# Altium integrated library Fszhang.IntLib: 203 symbols (part 2 of 2)
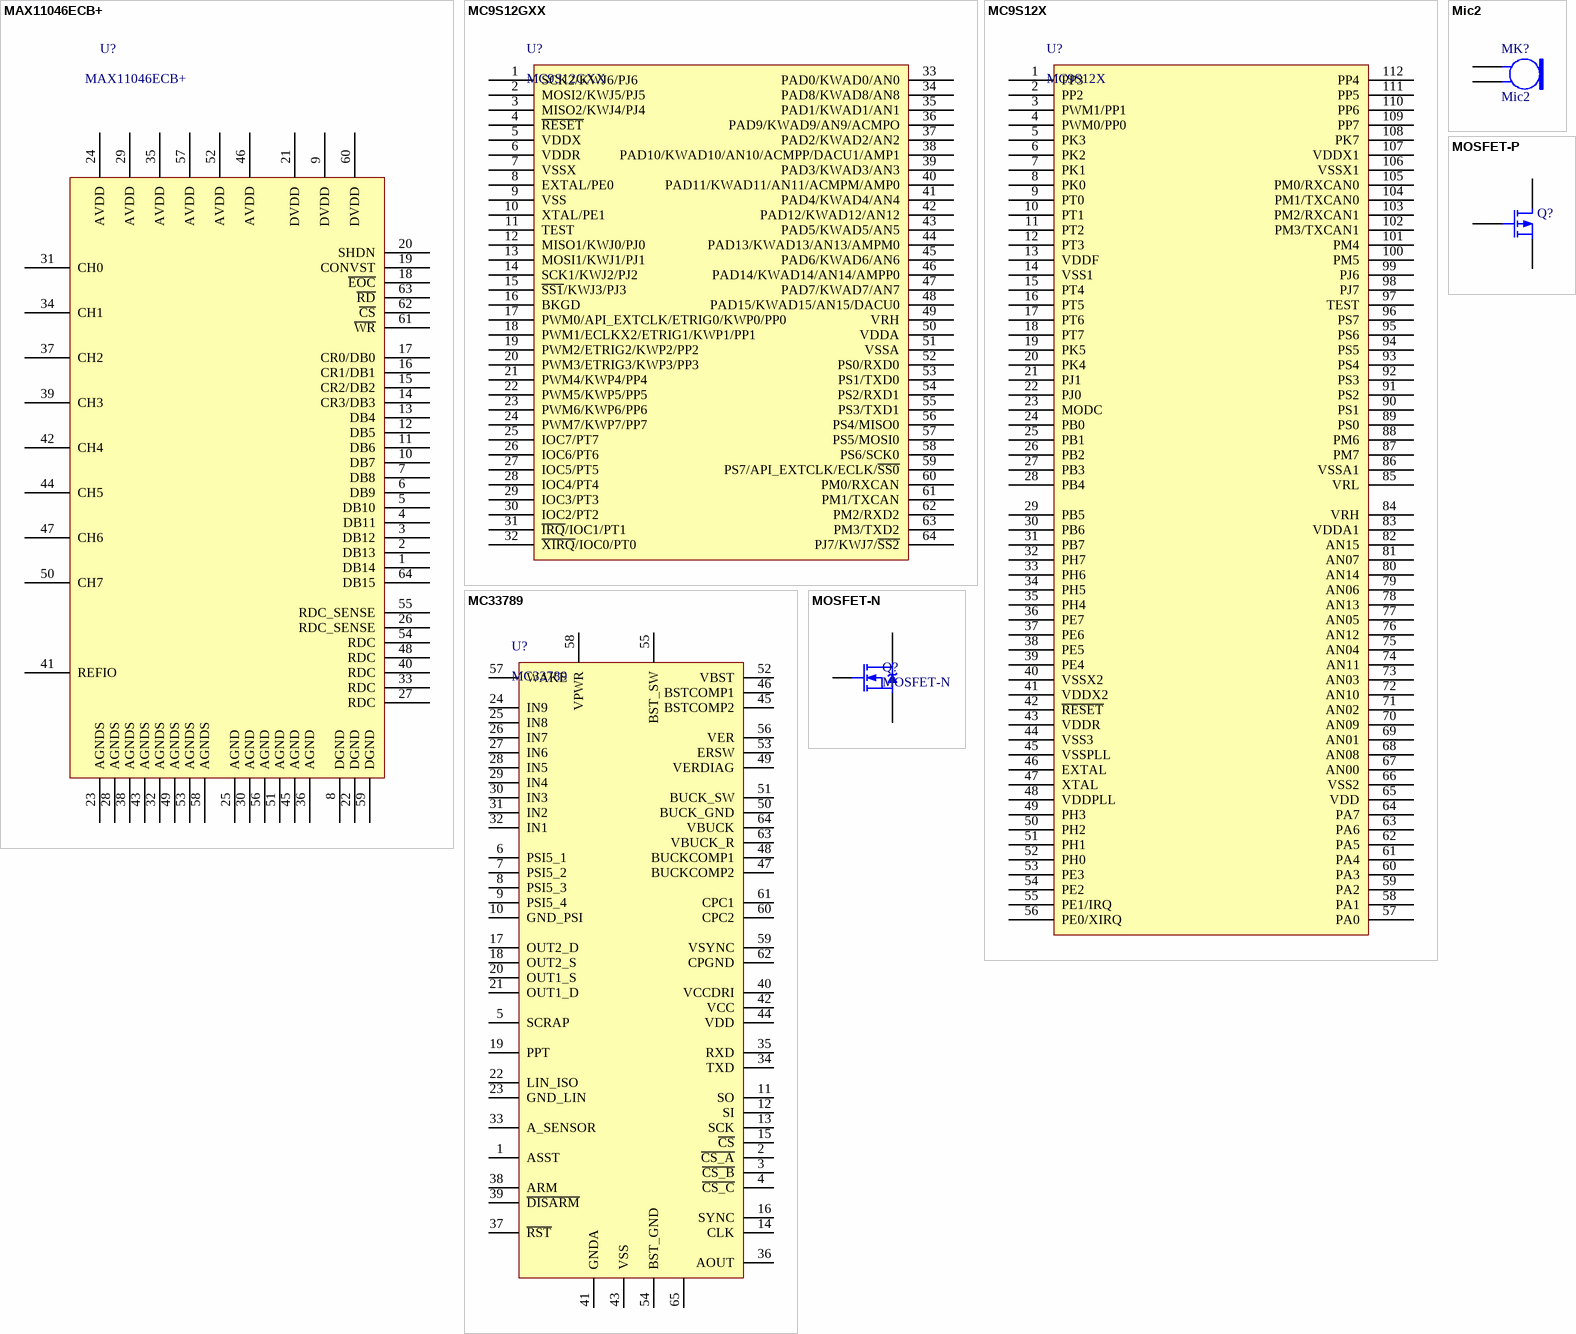
[diagram p12: symbols MAX11046ECB+ to MOSFET-P]

## MC33789
designator U?
飞思卡尔传感器
footprint LQFP-64_EP (LQFP64)
pins: 1 ASST, 2 ~{CS_A}, 3 ~{CS_B}, 4 ~{CS_C}, 5 SCRAP, 6 PSI5_1, 7 PSI5_2, 8 PSI5_3, 9 PSI5_4, 10 GND_PSI, 11 SO, 12 SI, 13 SCK, 14 CLK, 15 ~{CS}, 16 SYNC, 17 OUT2_D, 18 OUT2_S, 19 PPT, 20 OUT1_S, 21 OUT1_D, 22 LIN_ISO, 23 GND_LIN, 24 IN9, 25 IN8, 26 IN7, 27 IN6, 28 IN5, 29 IN4, 30 IN3, 31 IN2, 32 IN1, 33 A_SENSOR, 34 TXD, 35 RXD, 36 AOUT, 37 ~{RST}, 38 ARM, 39 ~{DISARM}, 40 VCCDRI, 41 GNDA, 42 VCC, 43 VSS, 44 VDD, 45 BSTCOMP2, 46 BSTCOMP1, 47 BUCKCOMP2, 48 BUCKCOMP1, 49 VERDIAG, 50 BUCK_GND, 51 BUCK_SW, 52 VBST, 53 ERSW, 54 BST_GND, 55 BST_SW, 56 VER, 57 WAKE, 58 VPWR, 59 VSYNC, 60 CPC2, 61 CPC1, 62 CPGND, 63 VBUCK_R, 64 VBUCK, 65

## Mic2
designator MK?
Microphone; Published: 24-Mar-1999; LatestRevisionDate: 17-Jul-2002; LatestRevisionNote: Re-released for DXP Platform.; PackageReference: PIN2; Publisher: Altium Limited
footprint PIN2 (Photosensitive Diode; 2 Leads)
pins: 1, 2

## MOSFET-N
designator Q?
N-Channel MOSFET; PackageDocument: 1995/1996; Published: 8-Jun-2000; LatestRevisionDate: 17-Jul-2002; LatestRevisionNote: Re-released for DXP Platform.; PackageReference: E3; Publisher: Altium Limited
footprint TO-220AB (TO, Thru-Hole, Vertical, Heatsink Mounted; 3 In-Line Leads; Pitch 2.54 mm)
pins: D, G, S

## MOSFET-P
designator Q?  (value not drawn)
P-Channel MOSFET; PackageDocument: 1995/1996; Published: 8-Jun-2000; LatestRevisionDate: 17-Jul-2002; LatestRevisionNote: Re-released for DXP Platform.; PackageReference: E3; Publisher: Altium Limited
footprint TO-220AB (TO, Thru-Hole, Vertical, Heatsink Mounted; 3 In-Line Leads; Pitch 2.54 mm)
pins: D, G, S

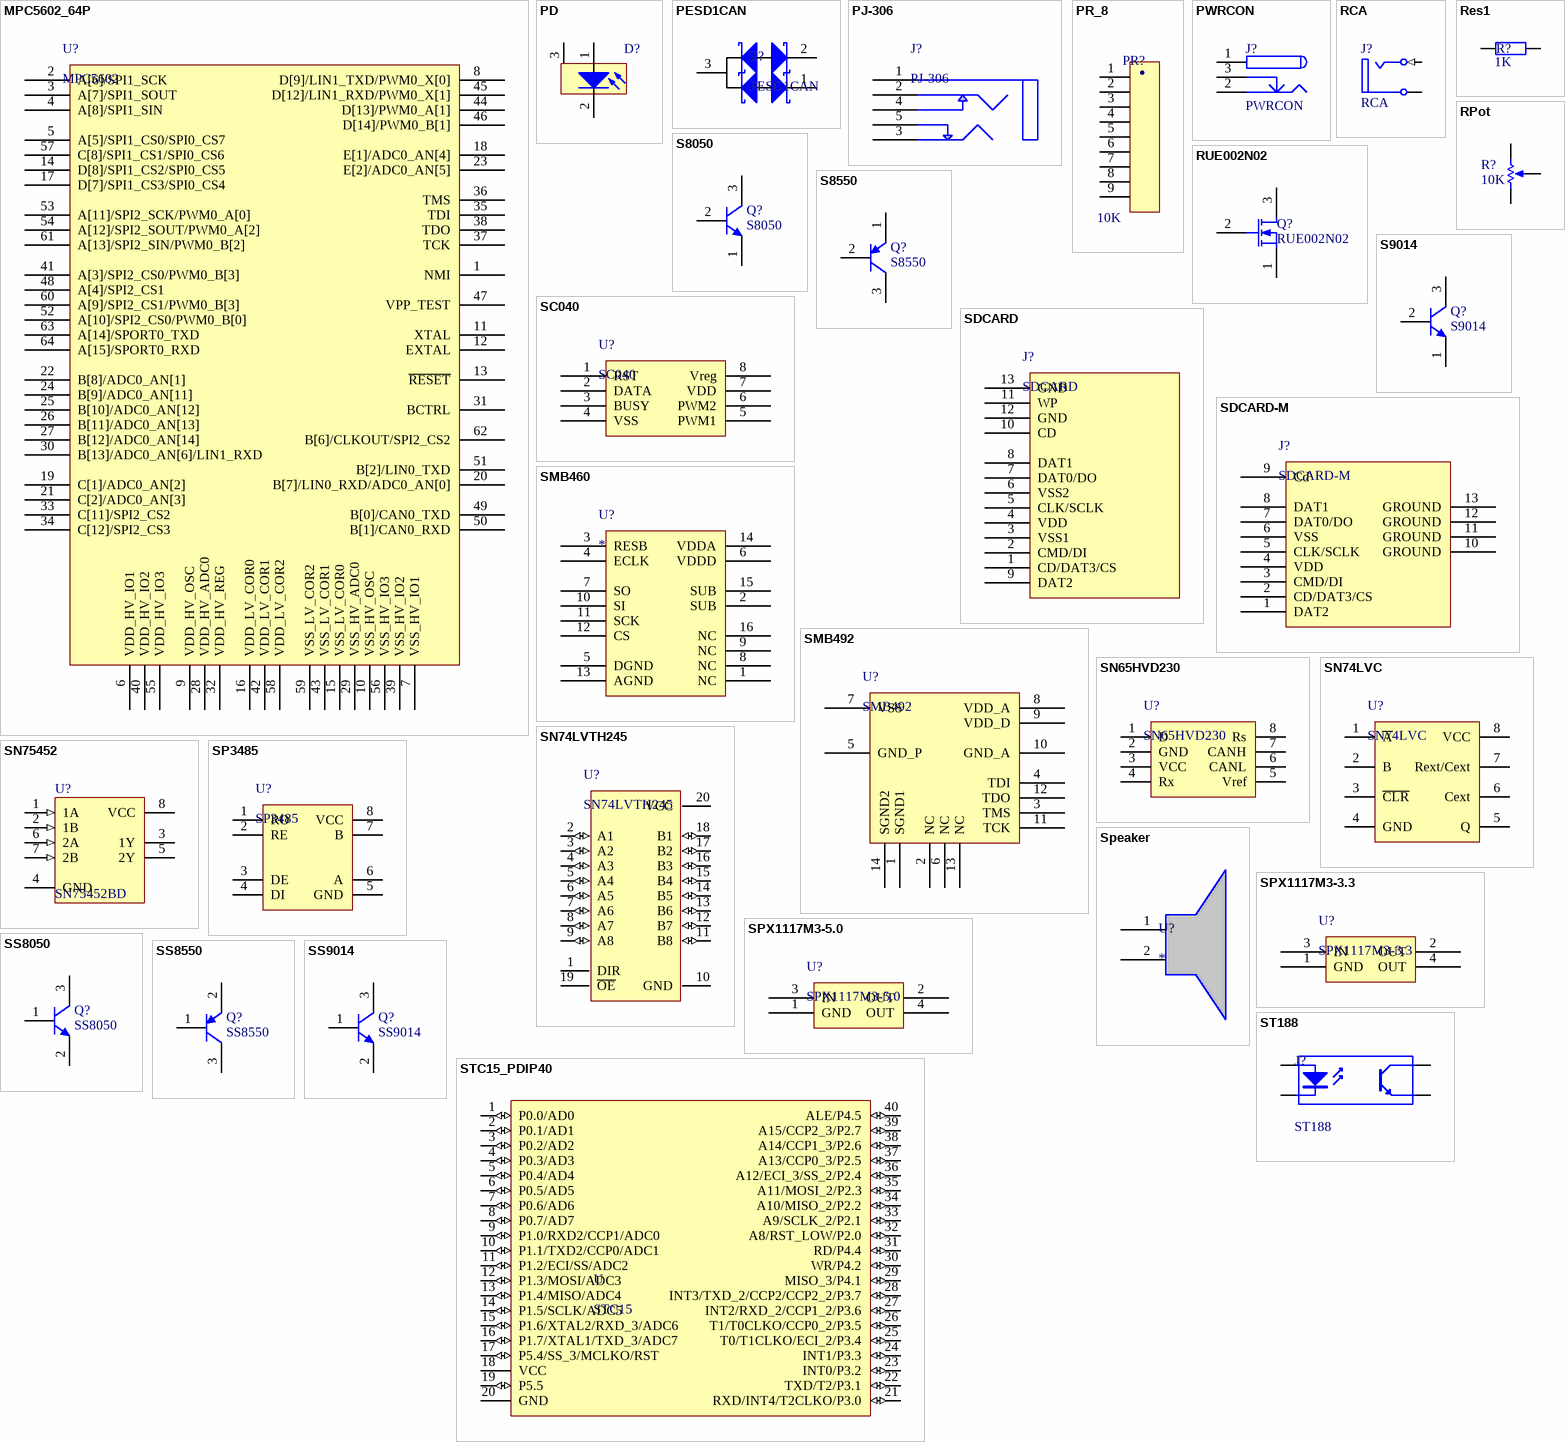
[diagram p6: symbols MPC5602_64P to STC15_PDIP40]

## MPC5602_64P
designator U?, comment MPC5602
Freescale PowerPC
footprint LQFP-64 (LQFP64)
pins: 1 NMI, 2 A[6]/SPI1_SCK, 3 A[7]/SPI1_SOUT, 4 A[8]/SPI1_SIN, 5 A[5]/SPI1_CS0/SPI0_CS7, 6 VDD_HV_IO1, 7 VSS_HV_IO1, 8 D[9]/LIN1_TXD/PWM0_X[0], 9 VDD_HV_OSC, 10 VSS_HV_OSC, 11 XTAL, 12 EXTAL, 13 ~{RESET}, 14 D[8]/SPI1_CS2/SPI0_CS5, 15 VSS_LV_COR0, 16 VDD_LV_COR0, 17 D[7]/SPI1_CS3/SPI0_CS4, 18 E[1]/ADC0_AN[4], 19 C[1]/ADC0_AN[2], 20 B[7]/LIN0_RXD/ADC0_AN[0], 21 C[2]/ADC0_AN[3], 22 B[8]/ADC0_AN[1], 23 E[2]/ADC0_AN[5], 24 B[9]/ADC0_AN[11], 25 B[10]/ADC0_AN[12], 26 B[11]/ADC0_AN[13], 27 B[12]/ADC0_AN[14], 28 VDD_HV_ADC0, 29 VSS_HV_ADC0, 30 B[13]/ADC0_AN[6]/LIN1_RXD, 31 BCTRL, 32 VDD_HV_REG, 33 C[11]/SPI2_CS2, 34 C[12]/SPI2_CS3, 35 TDI, 36 TMS, 37 TCK, 38 TDO, 39 VSS_HV_IO2, 40 VDD_HV_IO2, 41 A[3]/SPI2_CS0/PWM0_B[3], 42 VDD_LV_COR1, 43 VSS_LV_COR1, 44 D[13]/PWM0_A[1], 45 D[12]/LIN1_RXD/PWM0_X[1], 46 D[14]/PWM0_B[1], 47 VPP_TEST, 48 A[4]/SPI2_CS1, 49 B[0]/CAN0_TXD, 50 B[1]/CAN0_RXD, 51 B[2]/LIN0_TXD, 52 A[10]/SPI2_CS0/PWM0_B[0], 53 A[11]/SPI2_SCK/PWM0_A[0], 54 A[12]/SPI2_SOUT/PWM0_A[2], 55 VDD_HV_IO3, 56 VSS_HV_IO3, 57 C[8]/SPI1_CS1/SPI0_CS6, 58 VDD_LV_COR2, 59 VSS_LV_COR2, 60 A[9]/SPI2_CS1/PWM0_B[3], 61 A[13]/SPI2_SIN/PWM0_B[2], 62 B[6]/CLKOUT/SPI2_CS2, 63 A[14]/SPORT0_TXD, 64 A[15]/SPORT0_RXD

## PD
designator D?  (value not drawn)
光电二极管; Published: 24-Mar-1999; LatestRevisionDate: 17-Jul-2002; LatestRevisionNote: Re-released for DXP Platform.; Publisher: Altium Limited; PackageReference: PD
footprint PD
pins: 1 A, 2 K, 3 0

## PESD1CAN
designator Z?
过压保护
footprint SOT-23 (普通?)
pins: 1, 2, 3

## PJ-306
designator J?
立体声耳机插座
footprint PJ-315-B (立体声耳机插座)
footprint PJ-306 (立体声耳机插座)
pins: 1 COM, 2 L, 3 R, 4 L1, 5 R1

## PR_8
designator PR?, comment value 10K  (hidden comment: RES8-SIP9)
8排直播排电阻
footprint HDR9X1_A (2.54mm)
pins: 1 (power), 2 (power), 3 (power), 4 (power), 5 (power), 6 (power), 7 (power), 8 (power), 9 (power)
text: .

## PWRCON
designator J?
直流电源端子; Published: 17-Dec-2003; DatasheetDocument: 09-May-2002; Publisher: Altium Limited; ComponentLink1Description: Manufacturer Link; ComponentLink1URL: http://domino.kycon.com/internet/Products.html
footprint DC-005 (DC母座5.5mm)
footprint DC-002 (DC母座3.5mm)
pins: 1 (power), 2 (power), 3 (power)

## RCA
designator J?
RCA Phono Jack; PCB_Layout: Complies with manufacturer's recommendation.; DrillAndSlotSize: Corresponds to nominal value.; Published: 15-Jul-2004; LatestRevisionDate: 15-Jul-2004; LatestRevisionNote: Component Replaced.; DatasheetDocument: 7-Jul-2000; PackageDocument: 7-Jul-2000; PackageReference: 161; Publisher: Altium Limited; ComponentLink1Description: Manufacturer Link; ComponentLink1URL: http://www.mouser.com/kobiconn/
footprint RCA/4.5-H2 (Two Conductor Jack (RCA))
footprint RCJ-04X (Two Conductor Jack (RCA))
pins: 1A Ground (power) "Outer Shield (Sleeve)", 2B Signal (in) "Center Pin (Plug Tip)"

## Res1
designator R?  value 1K  (hidden comment: Res1)
贴片电阻; Published: 8-Jun-2000; LatestRevisionDate: 17-Jul-2002; LatestRevisionNote: Re-released for DXP Platform.; PackageReference: AXIAL-0.4; Publisher: Altium Limited
footprint 0805-1 (贴片带丝印)
footprint 0805-2 (贴片无丝印)
footprint 0603-1 (贴片带丝印)
footprint 1210 (贴片元件)
footprint AXIAL-0.8 (Semiconductor Resistor; 2 Leads)
footprint 2010 (贴片电阻)
footprint 0603-2 (贴片无丝印)
footprint 1206
footprint 2512 (保险丝)
footprint 1812 (保险丝)
footprint AXIAL-0.9 (插件电阻)
pins: 1, 2

## RPot
designator R?  value 10K  (hidden comment: RPot)
精密可调电阻; Sim Note: Enter the Resistance value and the set point into parameter fields.; Set Position: 0.5; Published: 8-Jun-2000; LatestRevisionDate: 17-Jul-2002; LatestRevisionNote: Re-released for DXP Platform.; PackageReference: VR5; Publisher: Altium Limited
footprint VR_A1 (Potentiometer; 3 Leads)
footprint VR_A2
footprint VR_B1 (Potentiometer; 3 Leads)
pins: 1 TOP, 2 TAP, 3 BOT
1 alternate drawing of the same symbol

## RUE002N02
designator Q?
低功耗MOSFET; Published: 8-Jun-2000; LatestRevisionDate: 17-Jul-2002; LatestRevisionNote: Re-released for DXP Platform.; PackageVersion: 1995/1996; PackageReference: E3; Publisher: Altium Limited
footprint SOT-416
pins: 1 S, 2 G, 3 D

## S8050
designator Q?
NPN三极管; Published: 8-Jun-2000; LatestRevisionDate: 15-Jan-2003; LatestRevisionNote: PCB Footprint 'BCY-W3/D4.7' replaced; DatasheetDocument: 1997; PackageDocument: Sep-1998; PackageReference: TO-92A; Publisher: Altium Limited; Code_JEDEC: TO-92A; ComponentLink1Description: Manufacturer Link; ComponentLink1URL: http://www.fairchildsemi.com/; ComponentLink2Description: Datasheet; ComponentLink2URL: http://www.fairchildsemi.com/ds/2N%2F2N3904.pdf
footprint TO-92A (TO, Flat Index; 3 In-Line, Axial Leads; Body Dia. 4.5mm; Leads 0.51 x 0.48 mm (max))
pins: 1 E, 2 B, 3 C

## S8550
designator Q?
PNP三极管; Published: 8-Jun-2000; LatestRevisionDate: 15-Jan-2003; LatestRevisionNote: PCB Footprint 'BCY-W3/D4.7' replaced; DatasheetDocument: 1997; PackageDocument: Sep-1998; PackageReference: TO-92A; Publisher: Altium Limited; Code_JEDEC: TO-92A; ComponentLink1Description: Manufacturer Link; ComponentLink1URL: http://www.fairchildsemi.com/; ComponentLink2Description: Datasheet; ComponentLink2URL: http://www.fairchildsemi.com/ds/2N%2F2N3906.pdf
footprint TO-92A (TO, Flat Index; 3 In-Line, Axial Leads; Body Dia. 4.5mm; Leads 0.51 x 0.48 mm (max))
pins: 1 E, 2 B, 3 C

## S9014
designator Q?
NPN三极管; Published: 8-Jun-2000; LatestRevisionDate: 15-Jan-2003; LatestRevisionNote: PCB Footprint 'BCY-W3/D4.7' replaced; DatasheetDocument: 1997; PackageDocument: Sep-1998; PackageReference: TO-92A; Publisher: Altium Limited; Code_JEDEC: TO-92A; ComponentLink1Description: Manufacturer Link; ComponentLink1URL: http://www.fairchildsemi.com/; ComponentLink2Description: Datasheet; ComponentLink2URL: http://www.fairchildsemi.com/ds/2N%2F2N3904.pdf
footprint TO-92A (TO, Flat Index; 3 In-Line, Axial Leads; Body Dia. 4.5mm; Leads 0.51 x 0.48 mm (max))
pins: 1 E, 2 B, 3 C

## SC040
designator U?
语音
footprint NSO8_N (SOIC-max660)
pins: 1 RST, 2 DATA, 3 BUSY, 4 VSS, 5 PWM1, 6 PWM2, 7 VDD, 8 Vreg

## SDCARD
designator J?
SD卡自弹
footprint SDCARD_B (SD卡自弹)
pins: 1 CD/DAT3/CS, 2 CMD/DI, 3 VSS1, 4 VDD, 5 CLK/SCLK, 6 VSS2, 7 DAT0/DO, 8 DAT1, 9 DAT2, 10 CD, 11 WP, 12 GND, 13 GND

## SDCARD-M
designator J?
TF卡槽
footprint SDCARD-M (TF卡)
pins: 1 DAT2, 2 CD/DAT3/CS, 3 CMD/DI, 4 VDD, 5 CLK/SCLK, 6 VSS, 7 DAT0/DO, 8 DAT1, 9 Cd, 10 GROUND, 11 GROUND, 12 GROUND, 13 GROUND

## SMB460
designator U?
SMB460
footprint SOIC127P1050X265-16N (SOIC SMB460)
pins: 1 NC, 2 SUB, 3 RESB, 4 ECLK, 5 DGND, 6 VDDD, 7 SO, 8 NC, 9 NC, 10 SI, 11 SCK, 12 CS, 13 AGND, 14 VDDA, 15 SUB, 16 NC

## SMB492
designator U?
外围加速度传感器
footprint SOP-14N (SOP, 14-Leads,)
pins: 1 SGND1, 2 NC, 3 TMS, 4 TDI, 5 GND_P, 6 NC, 7 VSS, 8 VDD_A, 9 VDD_D, 10 GND_A, 11 TCK, 12 TDO, 13 NC, 14 SGND2

## SN65HVD230
designator U?
CAN芯片
footprint NSO8_N (SOIC-max660)
pins: 1 D, 2 GND, 3 VCC, 4 Rx, 5 Vref, 6 CANL, 7 CANH, 8 Rs

## SN74LVC
designator U?
footprint PDSO-G8 (U)
pins: 1 ~{A}, 2 B, 3 ~{CLR}, 4 GND, 5 Q, 6 Cext, 7 Rext/Cext, 8 VCC

## SN74LVTH245
designator U?
双向数据传输
footprint TSSOP20 (Shrink Small Outline; 20 Leads; Body Width 4.4 mm; Pitch 0.65 mm)
pins: 1 DIR, 2 A1 (io), 3 A2 (io), 4 A3 (io), 5 A4 (io), 6 A5 (io), 7 A6 (io), 8 A7 (io), 9 A8 (io), 10 GND, 11 B8 (io), 12 B7 (io), 13 B6 (io), 14 B5 (io), 15 B4 (io), 16 B3 (io), 17 B2 (io), 18 B1 (io), 19 ~{OE}, 20 VCC (power)

## SN75452
designator U?, comment SN75452BD
Dual Peripheral Driver; Package Information: Latest Revision: Jan-1998; Published: 15-May-2002; Datasheet: 1991 Interface Circuits Data Book (May-1990); Package Reference: D008; Publisher: Altium Limited
footprint NSO8_N (SOIC-max660)
pins: 1 1A (in), 2 1B (in), 3 1Y (oc), 4 GND (power), 5 2Y (oc), 6 2A (in), 7 2B (in), 8 VCC (power)

## SP3485
designator U?
485总线芯片
footprint NSO8_N (SOIC-max660)
pins: 1 RO, 2 RE, 3 DE, 4 DI, 5 GND, 6 A, 7 B, 8 VCC

## Speaker
designator U?
Speaker
pins: 1 0, 2 1

## SPX1117M3-3.3
designator U?
3.3V稳压芯片
footprint SOT-223 (ASM1117 -3.3V)
pins: 1 GND, 2 OUT, 3 IN, 4 OUT

## SPX1117M3-5.0
designator U?
5.0V稳压芯片
footprint SOT-223 (ASM1117 -3.3V)
pins: 1 GND, 2 OUT, 3 IN, 4 OUT

## SS8050
designator Q?
NPN贴片三极管; Published: 8-Jun-2000; LatestRevisionDate: 15-Jan-2003; LatestRevisionNote: PCB Footprint 'BCY-W3/D4.7' replaced; DatasheetDocument: 1997; PackageDocument: Sep-1998; PackageReference: TO-92A; Publisher: Altium Limited; Code_JEDEC: TO-92A; ComponentLink1Description: Manufacturer Link; ComponentLink1URL: http://www.fairchildsemi.com/; ComponentLink2Description: Datasheet; ComponentLink2URL: http://www.fairchildsemi.com/ds/2N%2F2N3904.pdf
footprint SOT-23 (普通贴片三极管)
pins: 1 B, 2 E, 3 C

## SS8550
designator Q?
PNP贴片三极管; Published: 8-Jun-2000; LatestRevisionDate: 15-Jan-2003; LatestRevisionNote: PCB Footprint 'BCY-W3/D4.7' replaced; DatasheetDocument: 1997; PackageDocument: Sep-1998; PackageReference: TO-92A; Publisher: Altium Limited; Code_JEDEC: TO-92A; ComponentLink1Description: Manufacturer Link; ComponentLink1URL: http://www.fairchildsemi.com/; ComponentLink2Description: Datasheet; ComponentLink2URL: http://www.fairchildsemi.com/ds/2N%2F2N3906.pdf
footprint SOT-23 (普通贴片三极管)
pins: 1 B, 2 E, 3 C

## SS9014
designator Q?
NPN贴片三极管; Published: 8-Jun-2000; LatestRevisionDate: 15-Jan-2003; LatestRevisionNote: PCB Footprint 'BCY-W3/D4.7' replaced; DatasheetDocument: 1997; PackageDocument: Sep-1998; PackageReference: TO-92A; Publisher: Altium Limited; Code_JEDEC: TO-92A; ComponentLink1Description: Manufacturer Link; ComponentLink1URL: http://www.fairchildsemi.com/; ComponentLink2Description: Datasheet; ComponentLink2URL: http://www.fairchildsemi.com/ds/2N%2F2N3904.pdf
footprint SOT-23 (普通贴片三极管)
pins: 1 B, 2 E, 3 C

## ST188
designator J?
反射式光电传感器; Published: 24-Mar-1999; LatestRevisionDate: 04-Mar-2005; LatestRevisionNote: Sch pins 3 & 4 Swapped.; DatasheetDocument: Nov-2003; PackageReference: DIP-4; Publisher: Altium Limited
footprint ST188 (反射光电传感器)
pins: 1 A "Anode", 2 K "Cathode", 3 E "Emitter", 4 C "Collector"

## STC15_PDIP40
designator U, comment STC15
footprint DIP-40 (51单片机)
pins: 1 P0.0/AD0 (io), 2 P0.1/AD1 (io), 3 P0.2/AD2 (io), 4 P0.3/AD3 (io), 5 P0.4/AD4 (io), 6 P0.5/AD5 (io), 7 P0.6/AD6 (io), 8 P0.7/AD7 (io), 9 P1.0/RXD2/CCP1/ADC0 (io), 10 P1.1/TXD2/CCP0/ADC1 (io), 11 P1.2/ECI/SS/ADC2 (io), 12 P1.3/MOSI/ADC3 (io), 13 P1.4/MISO/ADC4 (io), 14 P1.5/SCLK/ADC5 (io), 15 P1.6/XTAL2/RXD_3/ADC6 (io), 16 P1.7/XTAL1/TXD_3/ADC7 (io), 17 P5.4/SS_3/MCLKO/RST (io), 18 VCC (power), 19 P5.5 (io), 20 GND (power), 21 RXD/INT4/T2CLKO/P3.0 (io), 22 TXD/T2/P3.1 (io), 23 INT0/P3.2 (io), 24 INT1/P3.3 (io), 25 T0/T1CLKO/ECI_2/P3.4 (io), 26 T1/T0CLKO/CCP0_2/P3.5 (io), 27 INT2/RXD_2/CCP1_2/P3.6 (io), 28 INT3/TXD_2/CCP2/CCP2_2/P3.7 (io), 29 MISO_3/P4.1 (io), 30 WR/P4.2 (io), 31 RD/P4.4 (io), 32 A8/RST_LOW/P2.0 (io), 33 A9/SCLK_2/P2.1 (io), 34 A10/MISO_2/P2.2 (io), 35 A11/MOSI_2/P2.3 (io), 36 A12/ECI_3/SS_2/P2.4 (io), 37 A13/CCP0_3/P2.5 (io), 38 A14/CCP1_3/P2.6 (io), 39 A15/CCP2_3/P2.7 (io), 40 ALE/P4.5 (io)

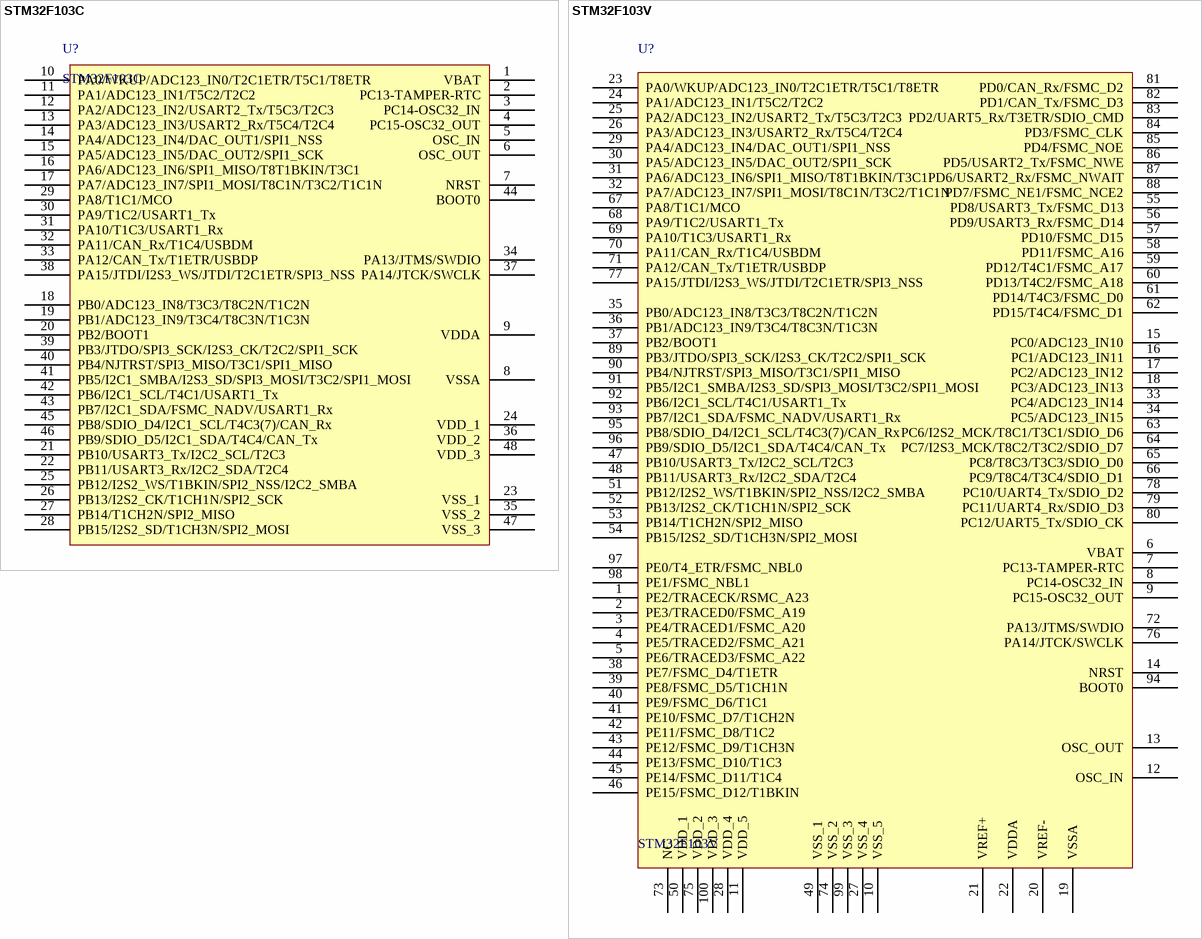
[diagram p7: symbols STM32F103C to STM32F103V]

## STM32F103C
designator U?
STM32单片机48引脚
footprint LQFP-48_M (Thin QFP, 48-Leads, Body 7x7mm, Pitch 0.5mm, IPC Low Density)
pins: 1 VBAT, 2 PC13-TAMPER-RTC, 3 PC14-OSC32_IN, 4 PC15-OSC32_OUT, 5 OSC_IN, 6 OSC_OUT, 7 NRST, 8 VSSA, 9 VDDA, 10 PA0/WKUP/ADC123_IN0/T2C1ETR/T5C1/T8ETR, 11 PA1/ADC123_IN1/T5C2/T2C2, 12 PA2/ADC123_IN2/USART2_Tx/T5C3/T2C3, 13 PA3/ADC123_IN3/USART2_Rx/T5C4/T2C4, 14 PA4/ADC123_IN4/DAC_OUT1/SPI1_NSS, 15 PA5/ADC123_IN5/DAC_OUT2/SPI1_SCK, 16 PA6/ADC123_IN6/SPI1_MISO/T8T1BKIN/T3C1, 17 PA7/ADC123_IN7/SPI1_MOSI/T8C1N/T3C2/T1C1N, 18 PB0/ADC123_IN8/T3C3/T8C2N/T1C2N, 19 PB1/ADC123_IN9/T3C4/T8C3N/T1C3N, 20 PB2/BOOT1, 21 PB10/USART3_Tx/I2C2_SCL/T2C3, 22 PB11/USART3_Rx/I2C2_SDA/T2C4, 23 VSS_1, 24 VDD_1, 25 PB12/I2S2_WS/T1BKIN/SPI2_NSS/I2C2_SMBA, 26 PB13/I2S2_CK/T1CH1N/SPI2_SCK, 27 PB14/T1CH2N/SPI2_MISO, 28 PB15/I2S2_SD/T1CH3N/SPI2_MOSI, 29 PA8/T1C1/MCO, 30 PA9/T1C2/USART1_Tx, 31 PA10/T1C3/USART1_Rx, 32 PA11/CAN_Rx/T1C4/USBDM, 33 PA12/CAN_Tx/T1ETR/USBDP, 34 PA13/JTMS/SWDIO, 35 VSS_2, 36 VDD_2, 37 PA14/JTCK/SWCLK, 38 PA15/JTDI/I2S3_WS/JTDI/T2C1ETR/SPI3_NSS, 39 PB3/JTDO/SPI3_SCK/I2S3_CK/T2C2/SPI1_SCK, 40 PB4/NJTRST/SPI3_MISO/T3C1/SPI1_MISO, 41 PB5/I2C1_SMBA/I2S3_SD/SPI3_MOSI/T3C2/SPI1_MOSI, 42 PB6/I2C1_SCL/T4C1/USART1_Tx, 43 PB7/I2C1_SDA/FSMC_NADV/USART1_Rx, 44 BOOT0, 45 PB8/SDIO_D4/I2C1_SCL/T4C3(7)/CAN_Rx, 46 PB9/SDIO_D5/I2C1_SDA/T4C4/CAN_Tx, 47 VSS_3, 48 VDD_3

## STM32F103V
designator U?
STM32单片机100引脚
footprint LQFP-100_M (Thin QFP, 100)
pins: 1 PE2/TRACECK/RSMC_A23, 2 PE3/TRACED0/FSMC_A19, 3 PE4/TRACED1/FSMC_A20, 4 PE5/TRACED2/FSMC_A21, 5 PE6/TRACED3/FSMC_A22, 6 VBAT, 7 PC13-TAMPER-RTC, 8 PC14-OSC32_IN, 9 PC15-OSC32_OUT, 10 VSS_5, 11 VDD_5, 12 OSC_IN, 13 OSC_OUT, 14 NRST, 15 PC0/ADC123_IN10, 16 PC1/ADC123_IN11, 17 PC2/ADC123_IN12, 18 PC3/ADC123_IN13, 19 VSSA, 20 VREF-, 21 VREF+, 22 VDDA, 23 PA0/WKUP/ADC123_IN0/T2C1ETR/T5C1/T8ETR, 24 PA1/ADC123_IN1/T5C2/T2C2, 25 PA2/ADC123_IN2/USART2_Tx/T5C3/T2C3, 26 PA3/ADC123_IN3/USART2_Rx/T5C4/T2C4, 27 VSS_4, 28 VDD_4, 29 PA4/ADC123_IN4/DAC_OUT1/SPI1_NSS, 30 PA5/ADC123_IN5/DAC_OUT2/SPI1_SCK, 31 PA6/ADC123_IN6/SPI1_MISO/T8T1BKIN/T3C1, 32 PA7/ADC123_IN7/SPI1_MOSI/T8C1N/T3C2/T1C1N, 33 PC4/ADC123_IN14, 34 PC5/ADC123_IN15, 35 PB0/ADC123_IN8/T3C3/T8C2N/T1C2N, 36 PB1/ADC123_IN9/T3C4/T8C3N/T1C3N, 37 PB2/BOOT1, 38 PE7/FSMC_D4/T1ETR, 39 PE8/FSMC_D5/T1CH1N, 40 PE9/FSMC_D6/T1C1, 41 PE10/FSMC_D7/T1CH2N, 42 PE11/FSMC_D8/T1C2, 43 PE12/FSMC_D9/T1CH3N, 44 PE13/FSMC_D10/T1C3, 45 PE14/FSMC_D11/T1C4, 46 PE15/FSMC_D12/T1BKIN, 47 PB10/USART3_Tx/I2C2_SCL/T2C3, 48 PB11/USART3_Rx/I2C2_SDA/T2C4, 49 VSS_1, 50 VDD_1, 51 PB12/I2S2_WS/T1BKIN/SPI2_NSS/I2C2_SMBA, 52 PB13/I2S2_CK/T1CH1N/SPI2_SCK, 53 PB14/T1CH2N/SPI2_MISO, 54 PB15/I2S2_SD/T1CH3N/SPI2_MOSI, 55 PD8/USART3_Tx/FSMC_D13, 56 PD9/USART3_Rx/FSMC_D14, 57 PD10/FSMC_D15, 58 PD11/FSMC_A16, 59 PD12/T4C1/FSMC_A17, 60 PD13/T4C2/FSMC_A18, 61 PD14/T4C3/FSMC_D0, 62 PD15/T4C4/FSMC_D1, 63 PC6/I2S2_MCK/T8C1/T3C1/SDIO_D6, 64 PC7/I2S3_MCK/T8C2/T3C2/SDIO_D7, 65 PC8/T8C3/T3C3/SDIO_D0, 66 PC9/T8C4/T3C4/SDIO_D1, 67 PA8/T1C1/MCO, 68 PA9/T1C2/USART1_Tx, 69 PA10/T1C3/USART1_Rx, 70 PA11/CAN_Rx/T1C4/USBDM, 71 PA12/CAN_Tx/T1ETR/USBDP, 72 PA13/JTMS/SWDIO, 73 NC, 74 VSS_2, 75 VDD_2, 76 PA14/JTCK/SWCLK, 77 PA15/JTDI/I2S3_WS/JTDI/T2C1ETR/SPI3_NSS, 78 PC10/UART4_Tx/SDIO_D2, 79 PC11/UART4_Rx/SDIO_D3, 80 PC12/UART5_Tx/SDIO_CK, 81 PD0/CAN_Rx/FSMC_D2, 82 PD1/CAN_Tx/FSMC_D3, 83 PD2/UART5_Rx/T3ETR/SDIO_CMD, 84 PD3/FSMC_CLK, 85 PD4/FSMC_NOE, 86 PD5/USART2_Tx/FSMC_NWE, 87 PD6/USART2_Rx/FSMC_NWAIT, 88 PD7/FSMC_NE1/FSMC_NCE2, 89 PB3/JTDO/SPI3_SCK/I2S3_CK/T2C2/SPI1_SCK, 90 PB4/NJTRST/SPI3_MISO/T3C1/SPI1_MISO, 91 PB5/I2C1_SMBA/I2S3_SD/SPI3_MOSI/T3C2/SPI1_MOSI, 92 PB6/I2C1_SCL/T4C1/USART1_Tx, 93 PB7/I2C1_SDA/FSMC_NADV/USART1_Rx, 94 BOOT0, 95 PB8/SDIO_D4/I2C1_SCL/T4C3(7)/CAN_Rx, 96 PB9/SDIO_D5/I2C1_SDA/T4C4/CAN_Tx, 97 PE0/T4_ETR/FSMC_NBL0, 98 PE1/FSMC_NBL1, 99 VSS_3, 100 VDD_3

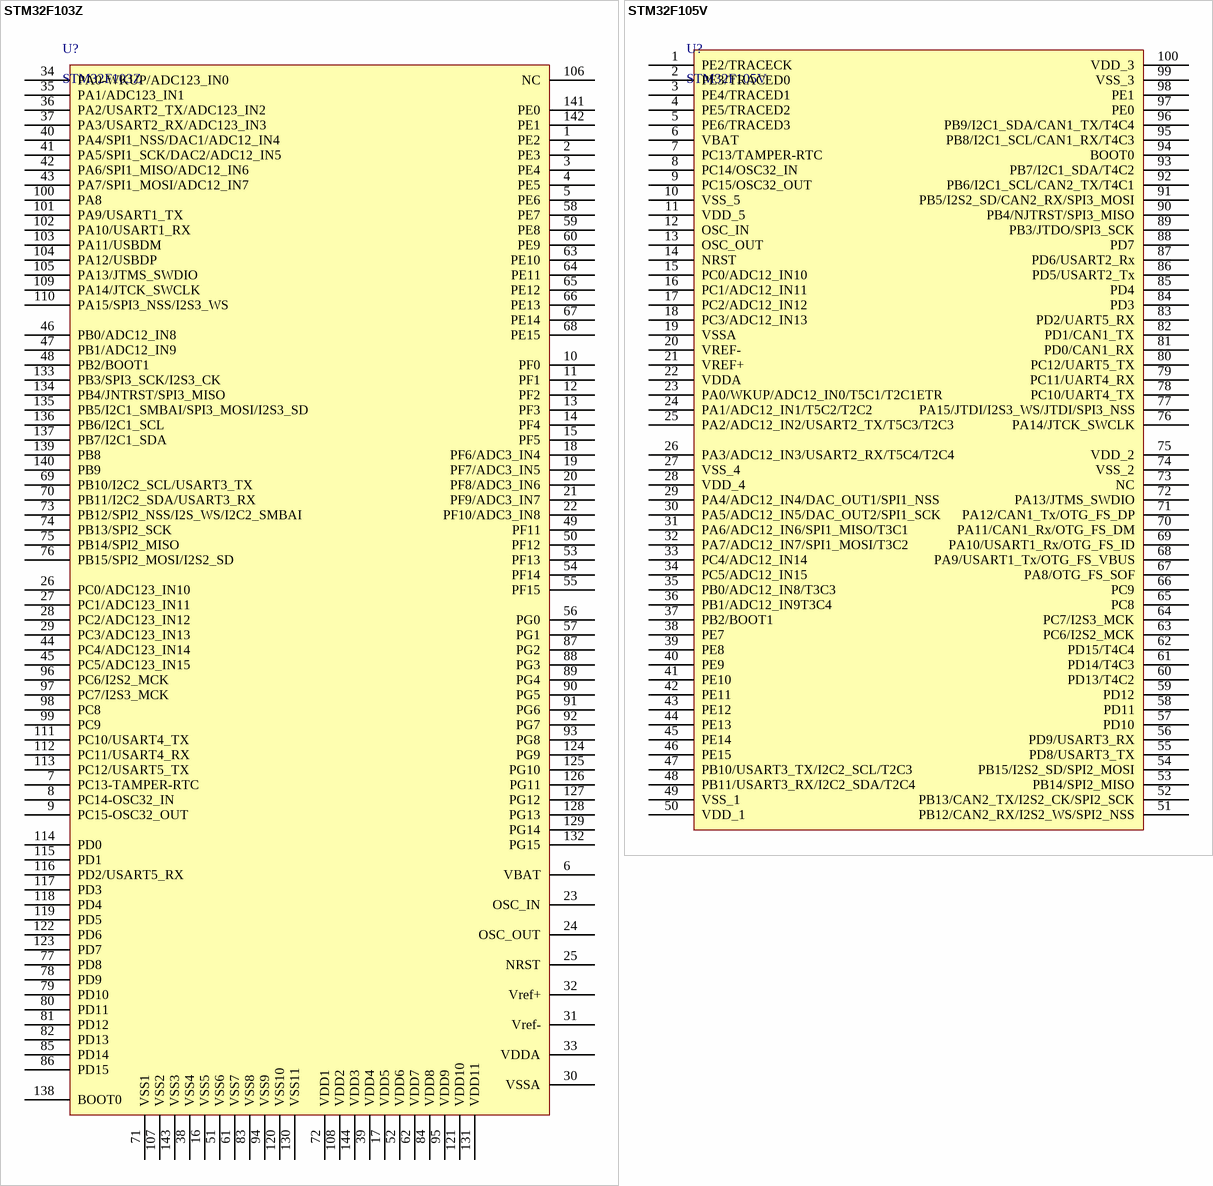
[diagram p8: symbols STM32F103Z to STM32F105V]

## STM32F103Z
designator U?
STM32单片机144引脚
footprint TQFP144_N (Thin QFP, 144-Leads, Body 20x20mm, Pitch 0.5mm, IPC Medium Density)
pins: 1 PE2, 2 PE3, 3 PE4, 4 PE5, 5 PE6, 6 VBAT, 7 PC13-TAMPER-RTC, 8 PC14-OSC32_IN, 9 PC15-OSC32_OUT, 10 PF0, 11 PF1, 12 PF2, 13 PF3, 14 PF4, 15 PF5, 16 VSS5, 17 VDD5, 18 PF6/ADC3_IN4, 19 PF7/ADC3_IN5, 20 PF8/ADC3_IN6, 21 PF9/ADC3_IN7, 22 PF10/ADC3_IN8, 23 OSC_IN, 24 OSC_OUT, 25 NRST, 26 PC0/ADC123_IN10, 27 PC1/ADC123_IN11, 28 PC2/ADC123_IN12, 29 PC3/ADC123_IN13, 30 VSSA, 31 Vref-, 32 Vref+, 33 VDDA, 34 PA0-WKUP/ADC123_IN0, 35 PA1/ADC123_IN1, 36 PA2/USART2_TX/ADC123_IN2, 37 PA3/USART2_RX/ADC123_IN3, 38 VSS4, 39 VDD4, 40 PA4/SPI1_NSS/DAC1/ADC12_IN4, 41 PA5/SPI1_SCK/DAC2/ADC12_IN5, 42 PA6/SPI1_MISO/ADC12_IN6, 43 PA7/SPI1_MOSI/ADC12_IN7, 44 PC4/ADC123_IN14, 45 PC5/ADC123_IN15, 46 PB0/ADC12_IN8, 47 PB1/ADC12_IN9, 48 PB2/BOOT1, 49 PF11, 50 PF12, 51 VSS6, 52 VDD6, 53 PF13, 54 PF14, 55 PF15, 56 PG0, 57 PG1, 58 PE7, 59 PE8, 60 PE9, 61 VSS7, 62 VDD7, 63 PE10, 64 PE11, 65 PE12, 66 PE13, 67 PE14, 68 PE15, 69 PB10/I2C2_SCL/USART3_TX, 70 PB11/I2C2_SDA/USART3_RX, 71 VSS1, 72 VDD1, 73 PB12/SPI2_NSS/I2S_WS/I2C2_SMBAI, 74 PB13/SPI2_SCK, 75 PB14/SPI2_MISO, 76 PB15/SPI2_MOSI/I2S2_SD, 77 PD8, 78 PD9, 79 PD10, 80 PD11, 81 PD12, 82 PD13, 83 VSS8, 84 VDD8, 85 PD14, 86 PD15, 87 PG2, 88 PG3, 89 PG4, 90 PG5, 91 PG6, 92 PG7, 93 PG8, 94 VSS9, 95 VDD9, 96 PC6/I2S2_MCK, 97 PC7/I2S3_MCK, 98 PC8, 99 PC9, 100 PA8, 101 PA9/USART1_TX, 102 PA10/USART1_RX, 103 PA11/USBDM, 104 PA12/USBDP, 105 PA13/JTMS_SWDIO, 106 NC, 107 VSS2, 108 VDD2, 109 PA14/JTCK_SWCLK, 110 PA15/SPI3_NSS/I2S3_WS, 111 PC10/USART4_TX, 112 PC11/USART4_RX, 113 PC12/USART5_TX, 114 PD0, 115 PD1, 116 PD2/USART5_RX, 117 PD3, 118 PD4, 119 PD5, 120 VSS10, 121 VDD10, 122 PD6, 123 PD7, 124 PG9, 125 PG10, 126 PG11, 127 PG12, 128 PG13, 129 PG14, 130 VSS11, 131 VDD11, 132 PG15, 133 PB3/SPI3_SCK/I2S3_CK, 134 PB4/JNTRST/SPI3_MISO, 135 PB5/I2C1_SMBAI/SPI3_MOSI/I2S3_SD, 136 PB6/I2C1_SCL, 137 PB7/I2C1_SDA, 138 BOOT0, 139 PB8, 140 PB9, 141 PE0, 142 PE1, 143 VSS3, 144 VDD3

## STM32F105V
designator U?
STM32单片机100引脚
footprint LQFP-100_M (Thin QFP, 100)
pins: 1 PE2/TRACECK, 2 PE3/TRACED0, 3 PE4/TRACED1, 4 PE5/TRACED2, 5 PE6/TRACED3, 6 VBAT, 7 PC13/TAMPER-RTC, 8 PC14/OSC32_IN, 9 PC15/OSC32_OUT, 10 VSS_5, 11 VDD_5, 12 OSC_IN, 13 OSC_OUT, 14 NRST, 15 PC0/ADC12_IN10, 16 PC1/ADC12_IN11, 17 PC2/ADC12_IN12, 18 PC3/ADC12_IN13, 19 VSSA, 20 VREF-, 21 VREF+, 22 VDDA, 23 PA0/WKUP/ADC12_IN0/T5C1/T2C1ETR, 24 PA1/ADC12_IN1/T5C2/T2C2, 25 PA2/ADC12_IN2/USART2_TX/T5C3/T2C3, 26 PA3/ADC12_IN3/USART2_RX/T5C4/T2C4, 27 VSS_4, 28 VDD_4, 29 PA4/ADC12_IN4/DAC_OUT1/SPI1_NSS, 30 PA5/ADC12_IN5/DAC_OUT2/SPI1_SCK, 31 PA6/ADC12_IN6/SPI1_MISO/T3C1, 32 PA7/ADC12_IN7/SPI1_MOSI/T3C2, 33 PC4/ADC12_IN14, 34 PC5/ADC12_IN15, 35 PB0/ADC12_IN8/T3C3, 36 PB1/ADC12_IN9T3C4, 37 PB2/BOOT1, 38 PE7, 39 PE8, 40 PE9, 41 PE10, 42 PE11, 43 PE12, 44 PE13, 45 PE14, 46 PE15, 47 PB10/USART3_TX/I2C2_SCL/T2C3, 48 PB11/USART3_RX/I2C2_SDA/T2C4, 49 VSS_1, 50 VDD_1, 51 PB12/CAN2_RX/I2S2_WS/SPI2_NSS, 52 PB13/CAN2_TX/I2S2_CK/SPI2_SCK, 53 PB14/SPI2_MISO, 54 PB15/I2S2_SD/SPI2_MOSI, 55 PD8/USART3_TX, 56 PD9/USART3_RX, 57 PD10, 58 PD11, 59 PD12, 60 PD13/T4C2, 61 PD14/T4C3, 62 PD15/T4C4, 63 PC6/I2S2_MCK, 64 PC7/I2S3_MCK, 65 PC8, 66 PC9, 67 PA8/OTG_FS_SOF, 68 PA9/USART1_Tx/OTG_FS_VBUS, 69 PA10/USART1_Rx/OTG_FS_ID, 70 PA11/CAN1_Rx/OTG_FS_DM, 71 PA12/CAN1_Tx/OTG_FS_DP, 72 PA13/JTMS_SWDIO, 73 NC, 74 VSS_2, 75 VDD_2, 76 PA14/JTCK_SWCLK, 77 PA15/JTDI/I2S3_WS/JTDI/SPI3_NSS, 78 PC10/UART4_TX, 79 PC11/UART4_RX, 80 PC12/UART5_TX, 81 PD0/CAN1_RX, 82 PD1/CAN1_TX, 83 PD2/UART5_RX, 84 PD3, 85 PD4, 86 PD5/USART2_Tx, 87 PD6/USART2_Rx, 88 PD7, 89 PB3/JTDO/SPI3_SCK, 90 PB4/NJTRST/SPI3_MISO, 91 PB5/I2S2_SD/CAN2_RX/SPI3_MOSI, 92 PB6/I2C1_SCL/CAN2_TX/T4C1, 93 PB7/I2C1_SDA/T4C2, 94 BOOT0, 95 PB8/I2C1_SCL/CAN1_RX/T4C3, 96 PB9/I2C1_SDA/CAN1_TX/T4C4, 97 PE0, 98 PE1, 99 VSS_3, 100 VDD_3

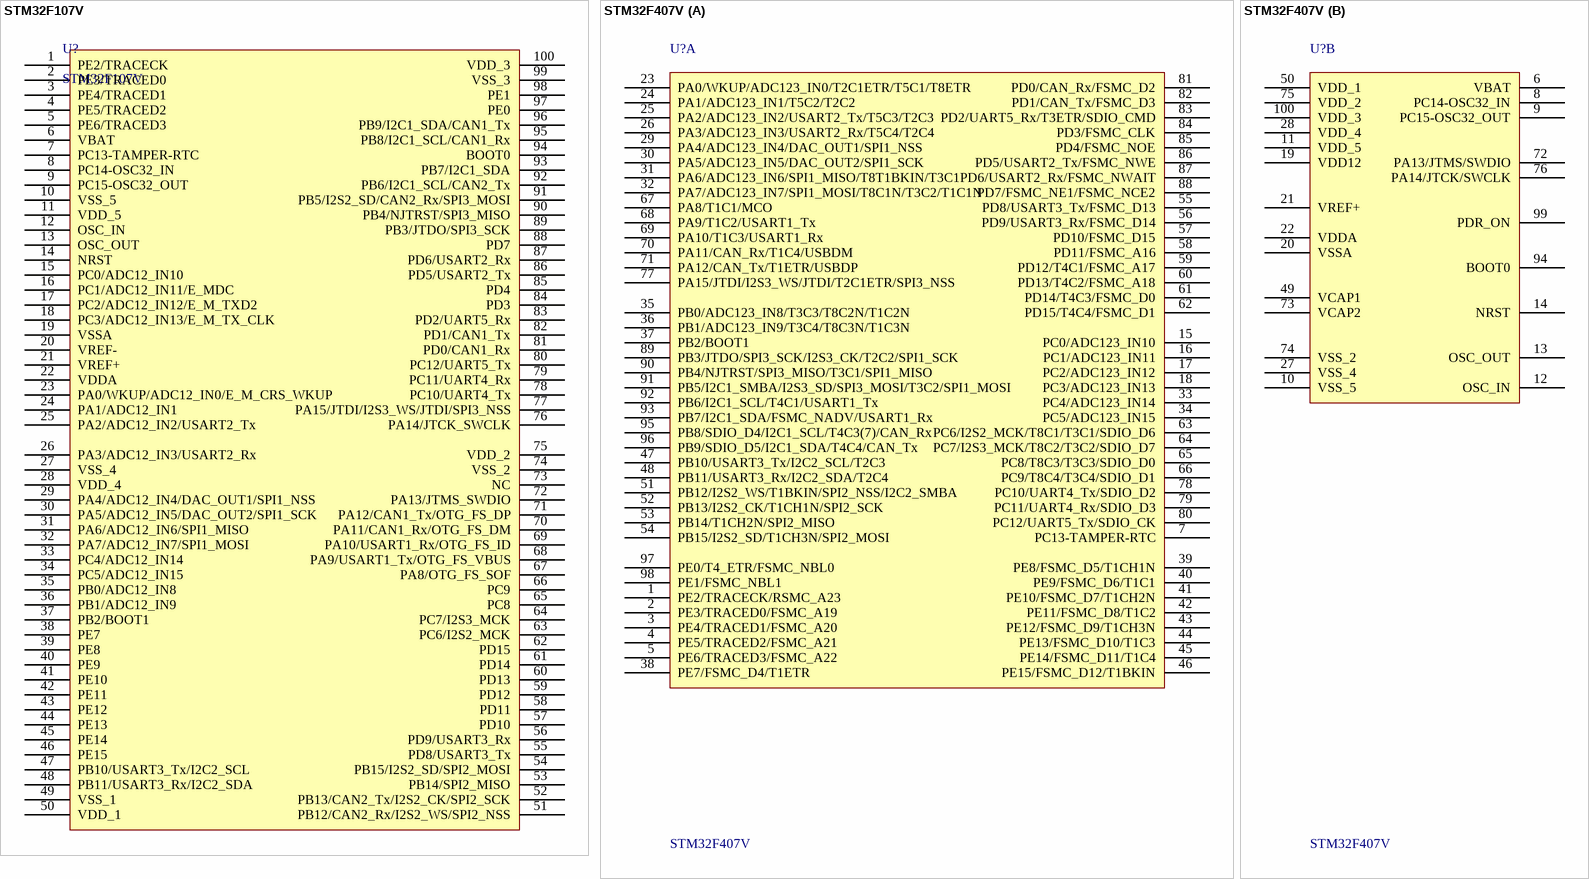
[diagram p9: symbols STM32F107V to STM32F407V]

## STM32F107V
designator U?
STM32单片机100引脚
footprint LQFP-100_M (Thin QFP, 100)
pins: 1 PE2/TRACECK, 2 PE3/TRACED0, 3 PE4/TRACED1, 4 PE5/TRACED2, 5 PE6/TRACED3, 6 VBAT, 7 PC13-TAMPER-RTC, 8 PC14-OSC32_IN, 9 PC15-OSC32_OUT, 10 VSS_5, 11 VDD_5, 12 OSC_IN, 13 OSC_OUT, 14 NRST, 15 PC0/ADC12_IN10, 16 PC1/ADC12_IN11/E_MDC, 17 PC2/ADC12_IN12/E_M_TXD2, 18 PC3/ADC12_IN13/E_M_TX_CLK, 19 VSSA, 20 VREF-, 21 VREF+, 22 VDDA, 23 PA0/WKUP/ADC12_IN0/E_M_CRS_WKUP, 24 PA1/ADC12_IN1, 25 PA2/ADC12_IN2/USART2_Tx, 26 PA3/ADC12_IN3/USART2_Rx, 27 VSS_4, 28 VDD_4, 29 PA4/ADC12_IN4/DAC_OUT1/SPI1_NSS, 30 PA5/ADC12_IN5/DAC_OUT2/SPI1_SCK, 31 PA6/ADC12_IN6/SPI1_MISO, 32 PA7/ADC12_IN7/SPI1_MOSI, 33 PC4/ADC12_IN14, 34 PC5/ADC12_IN15, 35 PB0/ADC12_IN8, 36 PB1/ADC12_IN9, 37 PB2/BOOT1, 38 PE7, 39 PE8, 40 PE9, 41 PE10, 42 PE11, 43 PE12, 44 PE13, 45 PE14, 46 PE15, 47 PB10/USART3_Tx/I2C2_SCL, 48 PB11/USART3_Rx/I2C2_SDA, 49 VSS_1, 50 VDD_1, 51 PB12/CAN2_Rx/I2S2_WS/SPI2_NSS, 52 PB13/CAN2_Tx/I2S2_CK/SPI2_SCK, 53 PB14/SPI2_MISO, 54 PB15/I2S2_SD/SPI2_MOSI, 55 PD8/USART3_Tx, 56 PD9/USART3_Rx, 57 PD10, 58 PD11, 59 PD12, 60 PD13, 61 PD14, 62 PD15, 63 PC6/I2S2_MCK, 64 PC7/I2S3_MCK, 65 PC8, 66 PC9, 67 PA8/OTG_FS_SOF, 68 PA9/USART1_Tx/OTG_FS_VBUS, 69 PA10/USART1_Rx/OTG_FS_ID, 70 PA11/CAN1_Rx/OTG_FS_DM, 71 PA12/CAN1_Tx/OTG_FS_DP, 72 PA13/JTMS_SWDIO, 73 NC, 74 VSS_2, 75 VDD_2, 76 PA14/JTCK_SWCLK, 77 PA15/JTDI/I2S3_WS/JTDI/SPI3_NSS, 78 PC10/UART4_Tx, 79 PC11/UART4_Rx, 80 PC12/UART5_Tx, 81 PD0/CAN1_Rx, 82 PD1/CAN1_Tx, 83 PD2/UART5_Rx, 84 PD3, 85 PD4, 86 PD5/USART2_Tx, 87 PD6/USART2_Rx, 88 PD7, 89 PB3/JTDO/SPI3_SCK, 90 PB4/NJTRST/SPI3_MISO, 91 PB5/I2S2_SD/CAN2_Rx/SPI3_MOSI, 92 PB6/I2C1_SCL/CAN2_Tx, 93 PB7/I2C1_SDA, 94 BOOT0, 95 PB8/I2C1_SCL/CAN1_Rx, 96 PB9/I2C1_SDA/CAN1_Tx, 97 PE0, 98 PE1, 99 VSS_3, 100 VDD_3

## STM32F407V
designator U?
STM32单片机100引脚
footprint LQFP-100_M (Thin QFP, 100)
part A pins: 1 PE2/TRACECK/RSMC_A23, 2 PE3/TRACED0/FSMC_A19, 3 PE4/TRACED1/FSMC_A20, 4 PE5/TRACED2/FSMC_A21, 5 PE6/TRACED3/FSMC_A22, 7 PC13-TAMPER-RTC, 15 PC0/ADC123_IN10, 16 PC1/ADC123_IN11, 17 PC2/ADC123_IN12, 18 PC3/ADC123_IN13, 23 PA0/WKUP/ADC123_IN0/T2C1ETR/T5C1/T8ETR, 24 PA1/ADC123_IN1/T5C2/T2C2, 25 PA2/ADC123_IN2/USART2_Tx/T5C3/T2C3, 26 PA3/ADC123_IN3/USART2_Rx/T5C4/T2C4, 29 PA4/ADC123_IN4/DAC_OUT1/SPI1_NSS, 30 PA5/ADC123_IN5/DAC_OUT2/SPI1_SCK, 31 PA6/ADC123_IN6/SPI1_MISO/T8T1BKIN/T3C1, 32 PA7/ADC123_IN7/SPI1_MOSI/T8C1N/T3C2/T1C1N, 33 PC4/ADC123_IN14, 34 PC5/ADC123_IN15, 35 PB0/ADC123_IN8/T3C3/T8C2N/T1C2N, 36 PB1/ADC123_IN9/T3C4/T8C3N/T1C3N, 37 PB2/BOOT1, 38 PE7/FSMC_D4/T1ETR, 39 PE8/FSMC_D5/T1CH1N, 40 PE9/FSMC_D6/T1C1, 41 PE10/FSMC_D7/T1CH2N, 42 PE11/FSMC_D8/T1C2, 43 PE12/FSMC_D9/T1CH3N, 44 PE13/FSMC_D10/T1C3, 45 PE14/FSMC_D11/T1C4, 46 PE15/FSMC_D12/T1BKIN, 47 PB10/USART3_Tx/I2C2_SCL/T2C3, 48 PB11/USART3_Rx/I2C2_SDA/T2C4, 51 PB12/I2S2_WS/T1BKIN/SPI2_NSS/I2C2_SMBA, 52 PB13/I2S2_CK/T1CH1N/SPI2_SCK, 53 PB14/T1CH2N/SPI2_MISO, 54 PB15/I2S2_SD/T1CH3N/SPI2_MOSI, 55 PD8/USART3_Tx/FSMC_D13, 56 PD9/USART3_Rx/FSMC_D14, 57 PD10/FSMC_D15, 58 PD11/FSMC_A16, 59 PD12/T4C1/FSMC_A17, 60 PD13/T4C2/FSMC_A18, 61 PD14/T4C3/FSMC_D0, 62 PD15/T4C4/FSMC_D1, 63 PC6/I2S2_MCK/T8C1/T3C1/SDIO_D6, 64 PC7/I2S3_MCK/T8C2/T3C2/SDIO_D7, 65 PC8/T8C3/T3C3/SDIO_D0, 66 PC9/T8C4/T3C4/SDIO_D1, 67 PA8/T1C1/MCO, 68 PA9/T1C2/USART1_Tx, 69 PA10/T1C3/USART1_Rx, 70 PA11/CAN_Rx/T1C4/USBDM, 71 PA12/CAN_Tx/T1ETR/USBDP, 77 PA15/JTDI/I2S3_WS/JTDI/T2C1ETR/SPI3_NSS, 78 PC10/UART4_Tx/SDIO_D2, 79 PC11/UART4_Rx/SDIO_D3, 80 PC12/UART5_Tx/SDIO_CK, 81 PD0/CAN_Rx/FSMC_D2, 82 PD1/CAN_Tx/FSMC_D3, 83 PD2/UART5_Rx/T3ETR/SDIO_CMD, 84 PD3/FSMC_CLK, 85 PD4/FSMC_NOE, 86 PD5/USART2_Tx/FSMC_NWE, 87 PD6/USART2_Rx/FSMC_NWAIT, 88 PD7/FSMC_NE1/FSMC_NCE2, 89 PB3/JTDO/SPI3_SCK/I2S3_CK/T2C2/SPI1_SCK, 90 PB4/NJTRST/SPI3_MISO/T3C1/SPI1_MISO, 91 PB5/I2C1_SMBA/I2S3_SD/SPI3_MOSI/T3C2/SPI1_MOSI, 92 PB6/I2C1_SCL/T4C1/USART1_Tx, 93 PB7/I2C1_SDA/FSMC_NADV/USART1_Rx, 95 PB8/SDIO_D4/I2C1_SCL/T4C3(7)/CAN_Rx, 96 PB9/SDIO_D5/I2C1_SDA/T4C4/CAN_Tx, 97 PE0/T4_ETR/FSMC_NBL0, 98 PE1/FSMC_NBL1
part B pins: 6 VBAT, 8 PC14-OSC32_IN, 9 PC15-OSC32_OUT, 10 VSS_5, 11 VDD_5, 12 OSC_IN, 13 OSC_OUT, 14 NRST, 19 VDD12, 20 VSSA, 21 VREF+, 22 VDDA, 27 VSS_4, 28 VDD_4, 49 VCAP1, 50 VDD_1, 72 PA13/JTMS/SWDIO, 73 VCAP2, 74 VSS_2, 75 VDD_2, 76 PA14/JTCK/SWCLK, 94 BOOT0, 99 PDR_ON, 100 VDD_3

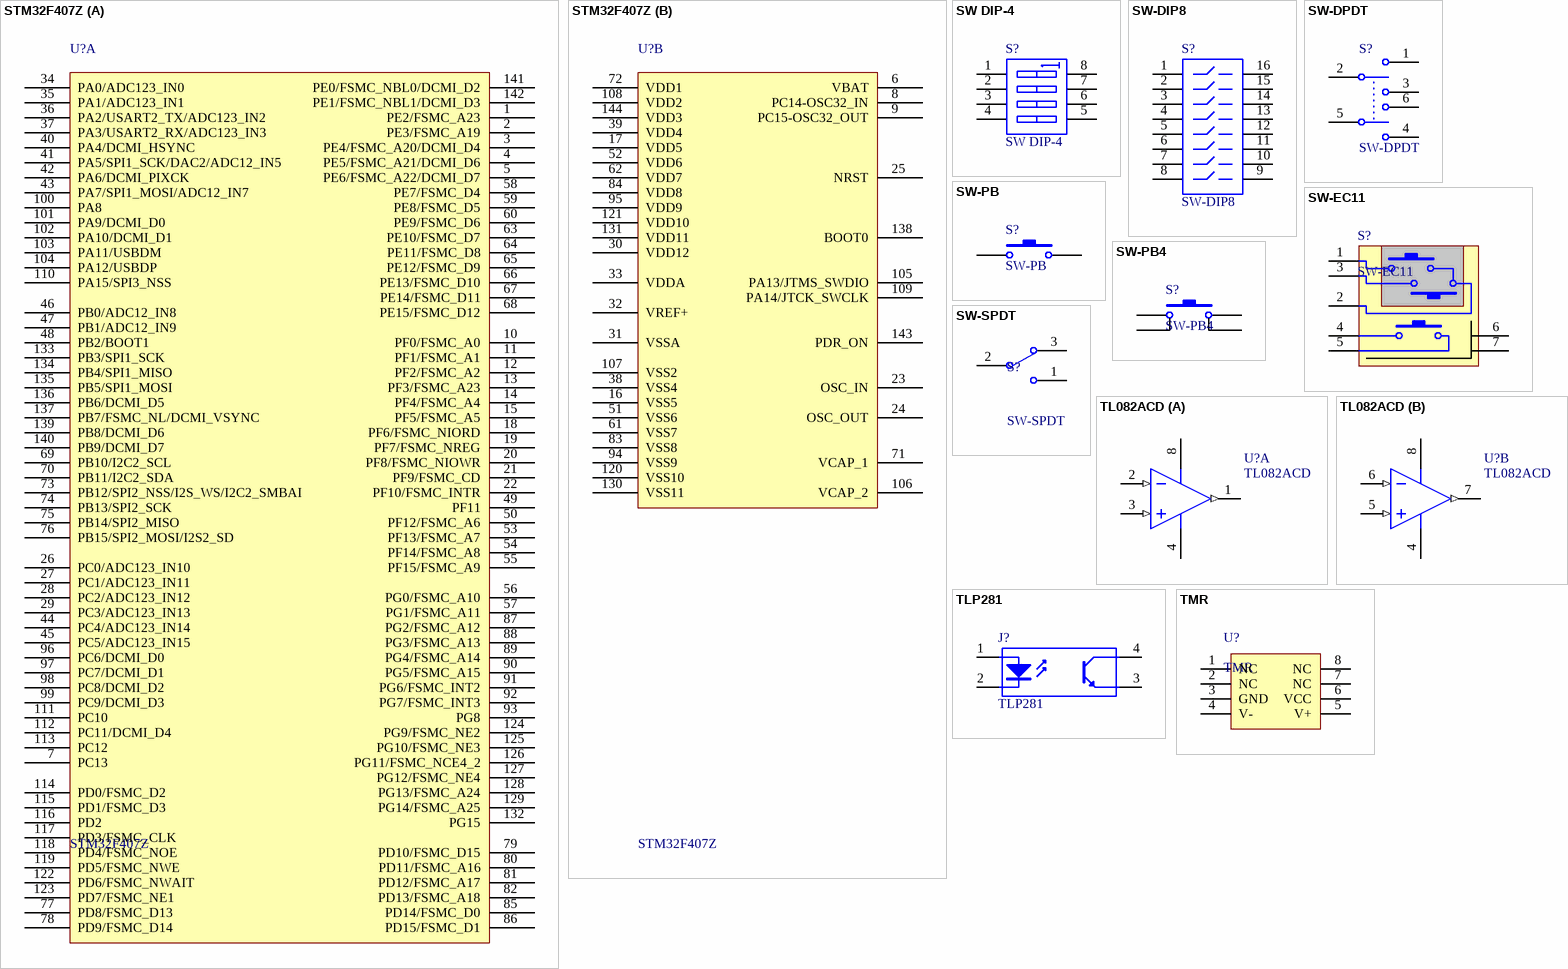
[diagram p10: symbols STM32F407Z to TMR]

## STM32F407Z
designator U?
STM32单片机144引脚
footprint TQFP144_N (TTM32V103ZET6)
part A pins: 1 PE2/FSMC_A23, 2 PE3/FSMC_A19, 3 PE4/FSMC_A20/DCMI_D4, 4 PE5/FSMC_A21/DCMI_D6, 5 PE6/FSMC_A22/DCMI_D7, 7 PC13, 10 PF0/FSMC_A0, 11 PF1/FSMC_A1, 12 PF2/FSMC_A2, 13 PF3/FSMC_A23, 14 PF4/FSMC_A4, 15 PF5/FSMC_A5, 18 PF6/FSMC_NIORD, 19 PF7/FSMC_NREG, 20 PF8/FSMC_NIOWR, 21 PF9/FSMC_CD, 22 PF10/FSMC_INTR, 26 PC0/ADC123_IN10, 27 PC1/ADC123_IN11, 28 PC2/ADC123_IN12, 29 PC3/ADC123_IN13, 34 PA0/ADC123_IN0, 35 PA1/ADC123_IN1, 36 PA2/USART2_TX/ADC123_IN2, 37 PA3/USART2_RX/ADC123_IN3, 40 PA4/DCMI_HSYNC, 41 PA5/SPI1_SCK/DAC2/ADC12_IN5, 42 PA6/DCMI_PIXCK, 43 PA7/SPI1_MOSI/ADC12_IN7, 44 PC4/ADC123_IN14, 45 PC5/ADC123_IN15, 46 PB0/ADC12_IN8, 47 PB1/ADC12_IN9, 48 PB2/BOOT1, 49 PF11, 50 PF12/FSMC_A6, 53 PF13/FSMC_A7, 54 PF14/FSMC_A8, 55 PF15/FSMC_A9, 56 PG0/FSMC_A10, 57 PG1/FSMC_A11, 58 PE7/FSMC_D4, 59 PE8/FSMC_D5, 60 PE9/FSMC_D6, 63 PE10/FSMC_D7, 64 PE11/FSMC_D8, 65 PE12/FSMC_D9, 66 PE13/FSMC_D10, 67 PE14/FSMC_D11, 68 PE15/FSMC_D12, 69 PB10/I2C2_SCL, 70 PB11/I2C2_SDA, 73 PB12/SPI2_NSS/I2S_WS/I2C2_SMBAI, 74 PB13/SPI2_SCK, 75 PB14/SPI2_MISO, 76 PB15/SPI2_MOSI/I2S2_SD, 77 PD8/FSMC_D13, 78 PD9/FSMC_D14, 79 PD10/FSMC_D15, 80 PD11/FSMC_A16, 81 PD12/FSMC_A17, 82 PD13/FSMC_A18, 85 PD14/FSMC_D0, 86 PD15/FSMC_D1, 87 PG2/FSMC_A12, 88 PG3/FSMC_A13, 89 PG4/FSMC_A14, 90 PG5/FSMC_A15, 91 PG6/FSMC_INT2, 92 PG7/FSMC_INT3, 93 PG8, 96 PC6/DCMI_D0, 97 PC7/DCMI_D1, 98 PC8/DCMI_D2, 99 PC9/DCMI_D3, 100 PA8, 101 PA9/DCMI_D0, 102 PA10/DCMI_D1, 103 PA11/USBDM, 104 PA12/USBDP, 110 PA15/SPI3_NSS, 111 PC10, 112 PC11/DCMI_D4, 113 PC12, 114 PD0/FSMC_D2, 115 PD1/FSMC_D3, 116 PD2, 117 PD3/FSMC_CLK, 118 PD4/FSMC_NOE, 119 PD5/FSMC_NWE, 122 PD6/FSMC_NWAIT, 123 PD7/FSMC_NE1, 124 PG9/FSMC_NE2, 125 PG10/FSMC_NE3, 126 PG11/FSMC_NCE4_2, 127 PG12/FSMC_NE4, 128 PG13/FSMC_A24, 129 PG14/FSMC_A25, 132 PG15, 133 PB3/SPI1_SCK, 134 PB4/SPI1_MISO, 135 PB5/SPI1_MOSI, 136 PB6/DCMI_D5, 137 PB7/FSMC_NL/DCMI_VSYNC, 139 PB8/DCMI_D6, 140 PB9/DCMI_D7, 141 PE0/FSMC_NBL0/DCMI_D2, 142 PE1/FSMC_NBL1/DCMI_D3
part B pins: 6 VBAT, 8 PC14-OSC32_IN, 9 PC15-OSC32_OUT, 16 VSS5, 17 VDD5, 23 OSC_IN, 24 OSC_OUT, 25 NRST, 30 VDD12, 31 VSSA, 32 VREF+, 33 VDDA, 38 VSS4, 39 VDD4, 51 VSS6, 52 VDD6, 61 VSS7, 62 VDD7, 71 VCAP_1, 72 VDD1, 83 VSS8, 84 VDD8, 94 VSS9, 95 VDD9, 105 PA13/JTMS_SWDIO, 106 VCAP_2, 107 VSS2, 108 VDD2, 109 PA14/JTCK_SWCLK, 120 VSS10, 121 VDD10, 130 VSS11, 131 VDD11, 138 BOOT0, 143 PDR_ON, 144 VDD3

## SW DIP-4
designator S?
编码开关; Published: 24-Mar-1999; LatestRevisionDate: 17-Jul-2002; LatestRevisionNote: Re-released for DXP Platform.; PackageReference: SO8; Publisher: Altium Limited; Code_JEDEC: MS-012-AA; Code_IPC: SO8
footprint SW8_4BIT (贴片)
pins: 1 A1, 2 A2, 3 A3, 4 A4, 5 B4, 6 B3, 7 B2, 8 B1

## SW-DIP8
designator S?
8位直插拨码开关; Published: 24-Mar-1999; LatestRevisionDate: 17-Dec-2003; LatestRevisionNote: PCB Footprint replaced.; PackageReference: DIP-16-KEY; Publisher: Altium Limited; ComponentLink1Description: Manufacturer Link; ComponentLink1URL: http://www.oupiin.com/prodindx.html#Headers
footprint DIP16-KEY (DIP拨码开关)
pins: 1, 2, 3, 4, 5, 6, 7, 8, 9, 10, 11, 12, 13, 14, 15, 16

## SW-DPDT
designator S?
单刀双掷开关; Published: 24-Mar-1999; LatestRevisionDate: 17-Jul-2002; LatestRevisionNote: Re-released for DXP Platform.; PackageReference: DPDT-6; Publisher: Altium Limited
footprint SWITCH_B1 (单刀)
pins: 1, 2, 3, 4, 5, 6

## SW-EC11
designator S?
旋转编码开关; Published: 24-Mar-1999; LatestRevisionDate: 17-Jul-2002; LatestRevisionNote: Re-released for DXP Platform.; PackageReference: SPST-2; Publisher: Altium Limited
footprint EC11
pins: 1, 2, 3, 4, 5, 6, 7

## SW-PB
designator S?
微动开关; Published: 24-Mar-1999; LatestRevisionDate: 17-Jul-2002; LatestRevisionNote: Re-released for DXP Platform.; PackageReference: SPST-2; Publisher: Altium Limited
footprint SW_PB2_C1 (侧卧微动开关)
footprint SW_PB2_B1
footprint SW_PB2_A1
pins: 1, 2

## SW-PB4
designator S?
微动开关; Published: 24-Mar-1999; LatestRevisionDate: 17-Jul-2002; LatestRevisionNote: Re-released for DXP Platform.; PackageReference: SPST-2; Publisher: Altium Limited
footprint SW_PB4_A1
pins: 1, 2, 3, 4

## SW-SPDT
designator S?
开关; Published: 24-Mar-1999; LatestRevisionDate: 17-Dec-2003; LatestRevisionNote: Schematic revised, PCB Footprint replaced.; DatasheetDocument: 05-Dec-2000; PackageReference: TL36WW15050; Publisher: Altium Limited; ComponentLink1Description: Manufacturer Link; ComponentLink1URL: http://www.apem.com
footprint SWITCH_A1 (扭?)
footprint SWITCH_A2 (平?)
footprint SWITCH_A3 (单刀单掷开关)
pins: 1, 2, 3

## TL082ACD
designator U?
JFET-Input Operational Amplifier; Published: 17-Jul-2002; LatestRevisionDate: 13-Apr-2006; LatestRevisionNote: IPC-7351 Footprint Added.; DatasheetVersion: 1988; PackageReference: 751-02; Publisher: Altium Limited; PackageDescription: 8-Pin Small Outline Integrated Circuit 1.27 mm Pitch; Code_JEDEC: MS-012-AA; Code_IPC: SOIC127P600-8; ComponentLink1Description: Manufacturer Link; ComponentLink1URL: http://www.onsemi.com/site/products/parametrics/0,4446,251,00.html
footprint NSO8_N (SOIC-max660)
pins on every part: 4 V- (power), 8 V+ (power)
part A pins: 1 OUT (out), 2 IN- (in), 3 IN+ (in)
part B pins: 5 IN+ (in), 6 IN- (in), 7 OUT (out)

## TLP281
designator J?
光耦; Published: 24-Mar-1999; LatestRevisionDate: 04-Mar-2005; LatestRevisionNote: Sch pins 3 & 4 Swapped.; DatasheetDocument: Nov-2003; PackageReference: DIP-4; Publisher: Altium Limited
footprint SOP127P710X350-4N (SOP, 4-Leads, Body 2.7x4.5mm (max), Pitch 1.27mm, IPC Medium Density)
pins: 1 A "Anode", 2 K "Cathode", 3 E "Emitter", 4 C "Collector"

## TMR
designator U?
隧道磁电阻
footprint NSO8_N (SOIC-max660)
pins: 1 NC, 2 NC, 3 GND, 4 V-, 5 V+, 6 VCC, 7 NC, 8 NC

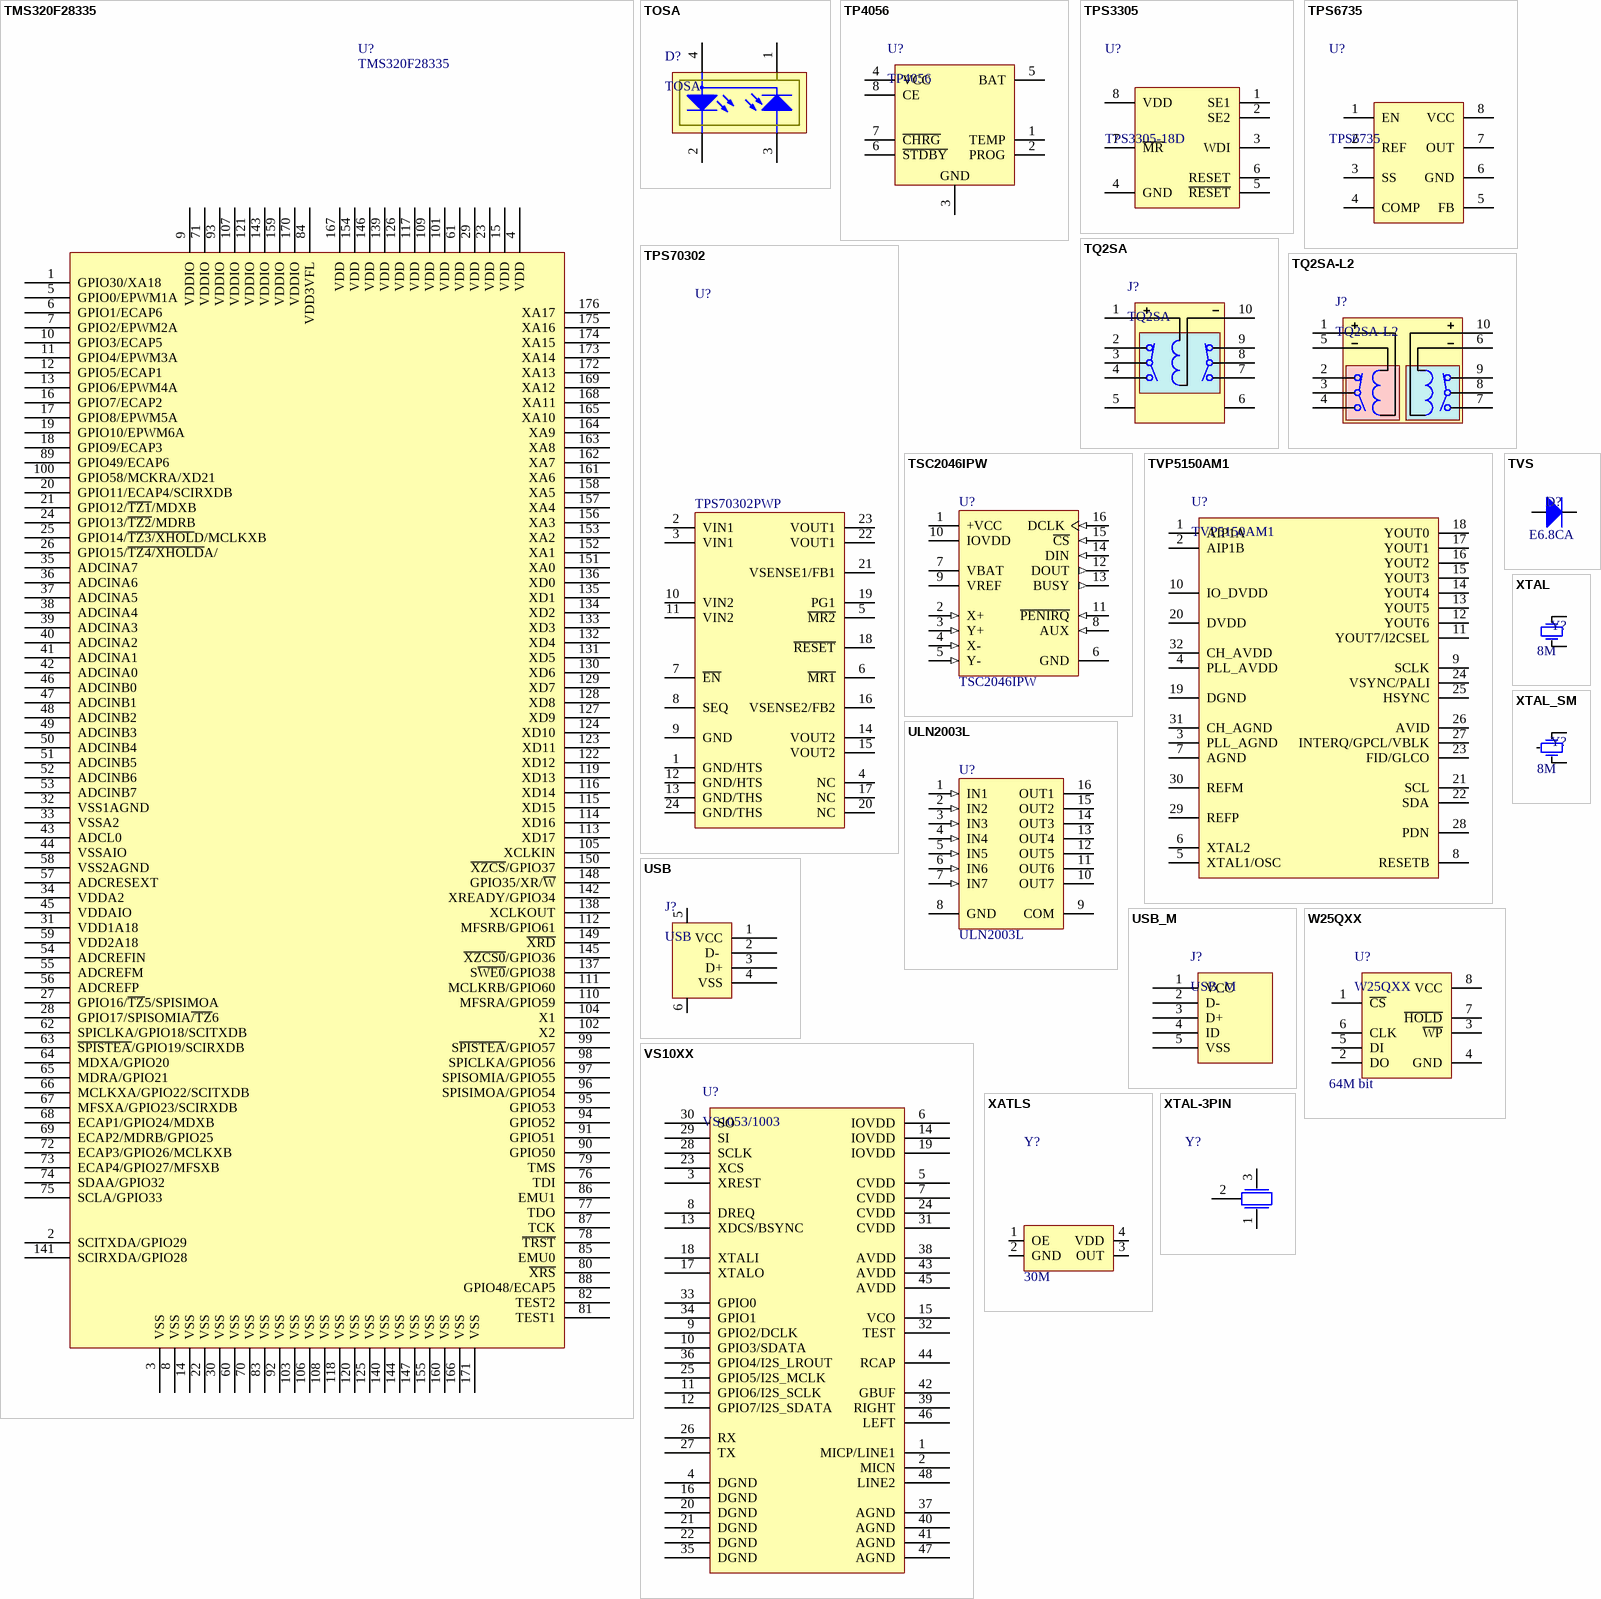
[diagram p11: symbols TMS320F28335 to XTAL_SM]

## TMS320F28335
designator U?
DSP芯片
footprint LQFP-176_M (Thin QFP, 176-Leads, Body 24x24mm, Pitch 0.5mm, IPC Low Density)
pins: 1 GPIO30/XA18, 2 SCITXDA/GPIO29, 3 VSS, 4 VDD, 5 GPIO0/EPWM1A, 6 GPIO1/ECAP6, 7 GPIO2/EPWM2A, 8 VSS, 9 VDDIO, 10 GPIO3/ECAP5, 11 GPIO4/EPWM3A, 12 GPIO5/ECAP1, 13 GPIO6/EPWM4A, 14 VSS, 15 VDD, 16 GPIO7/ECAP2, 17 GPIO8/EPWM5A, 18 GPIO9/ECAP3, 19 GPIO10/EPWM6A, 20 GPIO11/ECAP4/SCIRXDB, 21 GPIO12/~{TZ1}/MDXB, 22 VSS, 23 VDD, 24 GPIO13/~{TZ2}/MDRB, 25 GPIO14/~{TZ3/XHOL}D/MCLKXB, 26 GPIO15/~{TZ4/XHOLD}A/, 27 GPIO16/~{TZ}5/SPISIMOA, 28 GPIO17/SPISOMIA~{/TZ}6, 29 VDD, 30 VSS, 31 VDD1A18, 32 VSS1AGND, 33 VSSA2, 34 VDDA2, 35 ADCINA7, 36 ADCINA6, 37 ADCINA5, 38 ADCINA4, 39 ADCINA3, 40 ADCINA2, 41 ADCINA1, 42 ADCINA0, 43 ADCL0, 44 VSSAIO, 45 VDDAIO, 46 ADCINB0, 47 ADCINB1, 48 ADCINB2, 49 ADCINB3, 50 ADCINB4, 51 ADCINB5, 52 ADCINB6, 53 ADCINB7, 54 ADCREFIN, 55 ADCREFM, 56 ADCREFP, 57 ADCRESEXT, 58 VSS2AGND, 59 VDD2A18, 60 VSS, 61 VDD, 62 SPICLKA/GPIO18/SCITXDB, 63 ~{SPISTEA}/GPIO19/SCIRXDB, 64 MDXA/GPIO20, 65 MDRA/GPIO21, 66 MCLKXA/GPIO22/SCITXDB, 67 MFSXA/GPIO23/SCIRXDB, 68 ECAP1/GPIO24/MDXB, 69 ECAP2/MDRB/GPIO25, 70 VSS, 71 VDDIO, 72 ECAP3/GPIO26/MCLKXB, 73 ECAP4/GPIO27/MFSXB, 74 SDAA/GPIO32, 75 SCLA/GPIO33, 76 TDI, 77 TDO, 78 ~{TRST}, 79 TMS, 80 ~{XRS}, 81 TEST1, 82 TEST2, 83 VSS, 84 VDD3VFL, 85 EMU0, 86 EMU1, 87 TCK, 88 GPIO48/ECAP5, 89 GPIO49/ECAP6, 90 GPIO50, 91 GPIO51, 92 VSS, 93 VDDIO, 94 GPIO52, 95 GPIO53, 96 SPISIMOA/GPIO54, 97 SPISOMIA/GPIO55, 98 SPICLKA/GPIO56, 99 S~{PISTEA}/GPIO57, 100 GPIO58/MCKRA/XD21, 101 VDD, 102 X2, 103 VSS, 104 X1, 105 XCLKIN, 106 VSS, 107 VDDIO, 108 VSS, 109 VDD, 110 MFSRA/GPIO59, 111 MCLKRB/GPIO60, 112 MFSRB/GPIO61, 113 XD17, 114 XD16, 115 XD15, 116 XD14, 117 VDD, 118 VSS, 119 XD13, 120 VSS, 121 VDDIO, 122 XD12, 123 XD11, 124 XD10, 125 VSS, 126 VDD, 127 XD9, 128 XD8, 129 XD7, 130 XD6, 131 XD5, 132 XD4, 133 XD3, 134 XD2, 135 XD1, 136 XD0, 137 S~{WE0}/GPIO38, 138 XCLKOUT, 139 VDD, 140 VSS, 141 SCIRXDA/GPIO28, 142 XREADY/GPIO34, 143 VDDIO, 144 VSS, 145 ~{XZCS0}/GPIO36, 146 VDD, 147 VSS, 148 GPIO35/XR/~{W}, 149 ~{XRD}, 150 ~{XZCS}/GPIO37, 151 XA0, 152 XA1, 153 XA2, 154 VDD, 155 VSS, 156 XA3, 157 XA4, 158 XA5, 159 VDDIO, 160 VSS, 161 XA6, 162 XA7, 163 XA8, 164 XA9, 165 XA10, 166 VSS, 167 VDD, 168 XA11, 169 XA12, 170 VDDIO, 171 VSS, 172 XA13, 173 XA14, 174 XA15, 175 XA16, 176 XA17

## TOSA
designator D?
激光器
footprint LD-4P
pins: 1 GND, 2 LD-, 3 PD, 4 PW

## TP4056
designator U?
锂电池充电管理
footprint NSO8_TP4056 (SOIC-max660)
pins: 1 TEMP, 2 PROG, 3 GND, 4 VCC, 5 BAT, 6 ~{STDBY}, 7 ~{CHRG}, 8 CE

## TPS3305
designator U?, comment TPS3305-18D
DSP电源管理
footprint TSSOP-8
pins: 1 SE1, 2 SE2, 3 WDI, 4 GND, 5 ~{RESET}, 6 RESET, 7 ~{MR}, 8 VDD

## TPS6735
designator U?
负电压芯片
footprint NSO8_N (SOIC-max660)
pins: 1 EN, 2 REF, 3 SS, 4 COMP, 5 FB, 6 GND, 7 OUT, 8 VCC

## TPS70302
designator U?, comment TPS70302PWP
DSP电源芯片
footprint TSSOP24P (Shrink Small Outline; 24 Leads; Body Width 4.4 mm; Pitch 0.65 mm)
pins: 1 GND/HTS, 2 VIN1, 3 VIN1, 4 NC, 5 ~{MR2}, 6 ~{MR1}, 7 ~{EN}, 8 SEQ, 9 GND, 10 VIN2, 11 VIN2, 12 GND/HTS, 13 GND/THS, 14 VOUT2, 15 VOUT2, 16 VSENSE2/FB2, 17 NC, 18 ~{RESET}, 19 PG1, 20 NC, 21 VSENSE1/FB1, 22 VOUT1, 23 VOUT1, 24 GND/THS

## TQ2SA
designator J?
单通道继电器
footprint SOP254P1150X560-10N (双继电器10PIN)
pins: 1, 2, 3, 4, 5, 6, 7, 8, 9, 10

## TQ2SA-L2
designator J?
双通道双稳态继电器
footprint SOP254P1150X560-10N (双继电器10PIN)
pins: 1, 2, 3, 4, 5, 6, 7, 8, 9, 10

## TSC2046IPW
designator U?
触摸驱动芯片; Published: 6-Oct-2005; DatasheetVersion: Jan-2005; PackageVersion: Feb-1999; PackageReference: PW016; Publisher: Altium Limited; PackageDescription: Shrink Small Outline; 16 Leads; Body Width 4.4 mm; Pitch 0.65 mm; ComponentLink1Description: Manufacturer Link; ComponentLink1URL: http://focus.ti.com/docs/prod/folders/print/tsc2046.html; ComponentLink2Description: Datasheet; ComponentLink2URL: http://focus.ti.com/lit/ds/symlink/tcs2046.pdf
footprint PW016 (Shrink Small Outline; 16 Leads; Body Width 4.4 mm; Pitch 0.65 mm)
pins: 1 +VCC (power), 2 X+ (in), 3 Y+ (in), 4 X- (in), 5 Y- (in), 6 GND (power), 7 VBAT (power), 8 AUX (in), 9 VREF (power), 10 IOVDD (power), 11 ~{PENIRQ} (in), 12 DOUT (out), 13 BUSY (out), 14 DIN (in), 15 ~{CS} (in), 16 DCLK (in)

## TVP5150AM1
designator U?
视频解码芯片
footprint TQFP-32
pins: 1 AIP1A, 2 AIP1B, 3 PLL_AGND, 4 PLL_AVDD, 5 XTAL1/OSC, 6 XTAL2, 7 AGND, 8 RESETB, 9 SCLK, 10 IO_DVDD, 11 YOUT7/I2CSEL, 12 YOUT6, 13 YOUT5, 14 YOUT4, 15 YOUT3, 16 YOUT2, 17 YOUT1, 18 YOUT0, 19 DGND, 20 DVDD, 21 SCL, 22 SDA, 23 FID/GLCO, 24 VSYNC/PALI, 25 HSYNC, 26 AVID, 27 INTERQ/GPCL/VBLK, 28 PDN, 29 REFP, 30 REFM, 31 CH_AGND, 32 CH_AVDD

## TVS
designator D?  Type: E6.8CA  (hidden comment: TVS)
TVS保护; Published: 8-Jun-2000; LatestRevisionDate: 17-Jul-2002; LatestRevisionNote: Re-released for DXP Platform.; PackageDocument: Sep-1996; PackageReference: SMC; Publisher: Altium Limited; Code_JEDEC: DO-214-AB
footprint DIODE-AXL (直插二极管)
footprint DIODE-1206 (玻璃封装二极管)
footprint DIODE-SMA (贴片二极管)
footprint DIODE-SMB (DO-214-AA/SMB; 2 C-Bend Leads; Body 5.3 x 3.6 mm, inc. leads (LxW))
pins: 1 A, 2 K

## ULN2003L
designator U?
驱动芯片; Published: 13-Oct-2000; LatestRevisionDate: 13-Apr-2006; LatestRevisionNote: IPC-7351 Footprint Added.; DatasheetVersion: 1998; PackageReference: L16; Publisher: Altium Limited; PackageDescription: 16-Pin Small Outline Integrated Circuit 1.27 mm Pitch; Code_JEDEC: MS-012-AC; Code_IPC: SOIC127P600-16; ComponentLink1Description: Manufacturer Link; ComponentLink1URL: http://www.allegromicro.com/
footprint NSO16_M (SOIC, 16-Leads, Body 9.9x3.9mm, Pitch 1.27mm, IPC Low Density)
pins: 1 IN1 (in), 2 IN2 (in), 3 IN3 (in), 4 IN4 (in), 5 IN5 (in), 6 IN6 (in), 7 IN7 (in), 8 GND (power), 9 COM, 10 OUT7 (oc), 11 OUT6 (oc), 12 OUT5 (oc), 13 OUT4 (oc), 14 OUT3 (oc), 15 OUT2 (oc), 16 OUT1 (oc)

## USB
designator J?
USB接口
footprint USB_B1 (USB方?)
footprint USB_A1
footprint USB_C1 (侧卧USB)
pins: 1 VCC, 2 D- , 3 D+, 4 VSS, 5, 6

## USB_M
designator J?
MicroUSB接口
footprint USB_MICRO (USB方孔)
pins: 1 VCC, 2 D- , 3 D+, 4 ID, 5 VSS

## VS10XX
designator U?, comment VS1053/1003
音频解码芯片
footprint LQFP-48_M (Thin QFP, 48-Leads, Body 7x7mm, Pitch 0.5mm, IPC Low Density)
pins: 1 MICP/LINE1, 2 MICN, 3 XREST, 4 DGND, 5 CVDD, 6 IOVDD, 7 CVDD, 8 DREQ, 9 GPIO2/DCLK, 10 GPIO3/SDATA, 11 GPIO6/I2S_SCLK, 12 GPIO7/I2S_SDATA, 13 XDCS/BSYNC, 14 IOVDD, 15 VCO, 16 DGND, 17 XTALO, 18 XTALI, 19 IOVDD, 20 DGND, 21 DGND, 22 DGND, 23 XCS, 24 CVDD, 25 GPIO5/I2S_MCLK, 26 RX, 27 TX, 28 SCLK, 29 SI, 30 SO, 31 CVDD, 32 TEST, 33 GPIO0, 34 GPIO1, 35 DGND, 36 GPIO4/I2S_LROUT, 37 AGND, 38 AVDD, 39 RIGHT, 40 AGND, 41 AGND, 42 GBUF, 43 AVDD, 44 RCAP, 45 AVDD, 46 LEFT, 47 AGND, 48 LINE2

## W25QXX
designator U?  Memory: 64M bit
SPI FLASH
footprint SOIC8_W (SPI_FLASH)
pins: 1 ~{CS}, 2 DO, 3 ~{WP}, 4 GND, 5 DI, 6 CLK, 7 ~{HOLD}, 8 VCC

## XATLS
designator Y?  value 30M  (hidden comment: XATLS)
贴片有源晶振
footprint X-CPX75
pins: 1 OE, 2 GND, 3 OUT, 4 VDD

## XTAL
designator Y?  value 8M  (hidden comment: XTAL)
晶振; Published: 8-Jun-2000; LatestRevisionDate: 17-Jul-2002; LatestRevisionNote: Re-released for DXP Platform.; PackageReference: R38; Publisher: Altium Limited
footprint X-HC49U (插件晶振)
footprint X-SM49
pins: 1 OSC1, 2 OSC2

## XTAL-3PIN
designator Y?  (value not drawn)
贴片晶振
footprint X-CPX20 (贴片晶振)
pins: 1, 2, 3

## XTAL_SM
designator Y?  value 8M  (hidden comment: XTAL_SM)
圆柱晶振; Published: 8-Jun-2000; LatestRevisionDate: 17-Jul-2002; LatestRevisionNote: Re-released for DXP Platform.; PackageReference: R38; Publisher: Altium Limited
footprint X-TC15 (圆柱晶振1)
footprint X-TC26 (圆柱晶振2)
pins: 1 OSC1, 2 OSC2, 3